# Altium integrated library Wurth_Elektronik_Electromechanic_Wire_to_Board_Connectors_rev16a.IntLib: 662 symbols (part 3 of 10)
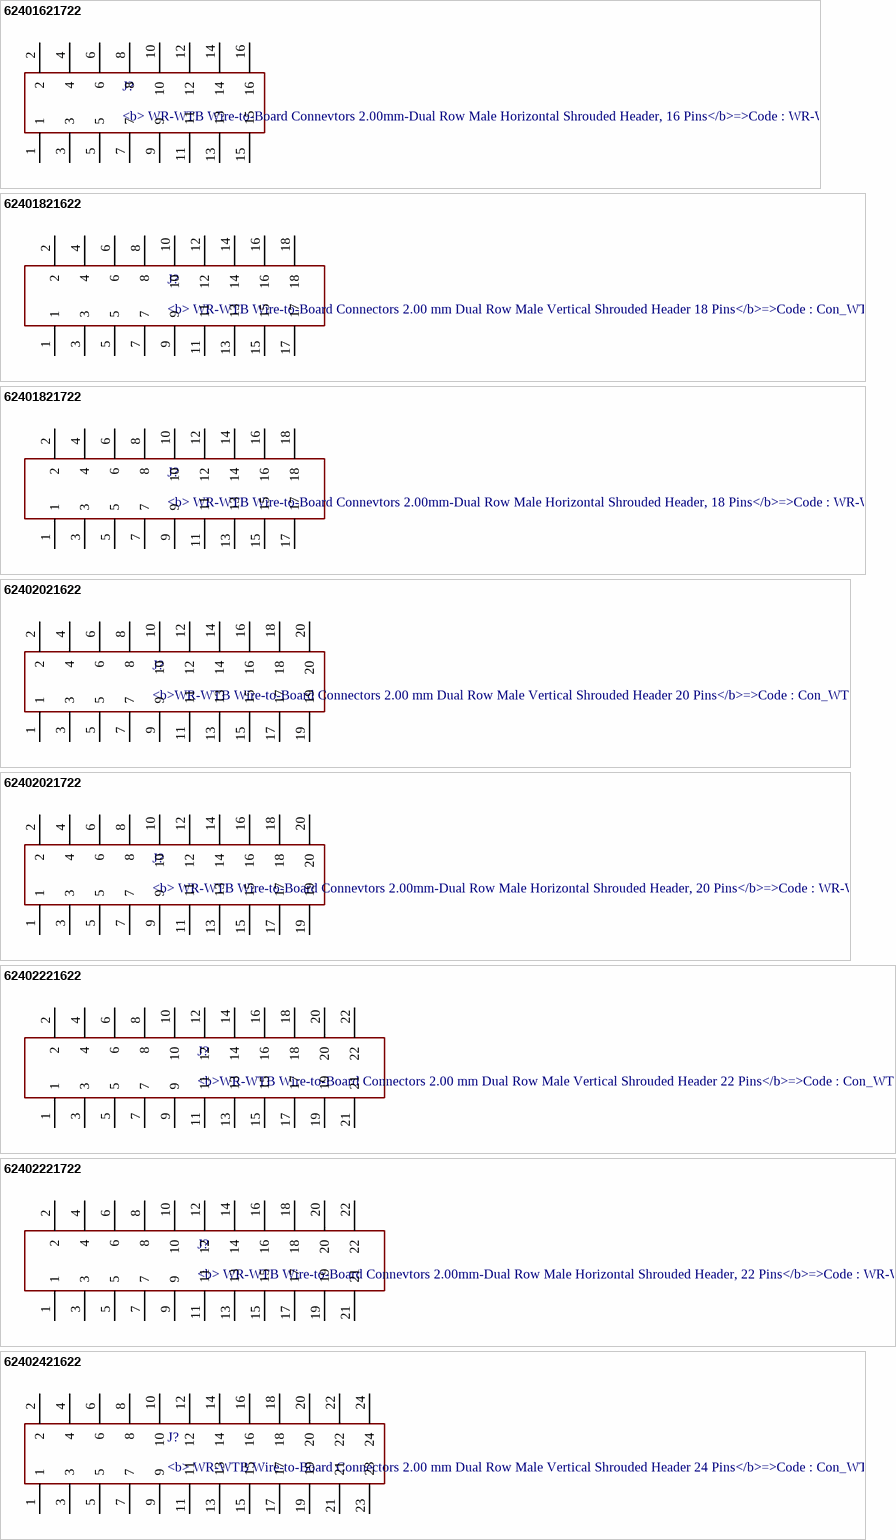
[diagram p64: symbols 62401621722 to 62402421622]

## 62401821622
designator J?, comment <b> WR-WTB Wire-to-Board Connectors 2.00 mm Dual Row Male Vertical Shrouded Header 18 Pins</b>=>Code : Con_WTB_2.00_PCB_THT_62401821622 / <br><a href="http://katalog.we-online.de/media/thumbs2/eican/thb_Con_WTB_2.00_PCB_THT_6240xx21622_pf2.jpg" title="Enlarge picture"> / <img src="http://katalog.we-online.de/media/thumbs2/eican/thb_Con_WTB_2.00_PCB_THT_6240xx21622_pf2.jpg"  width="320"></a><p> / Details see: <a href="http://katalog.we-online.de/en/em/624_0xx_216_22">http://katalog.we-online.de/en/em/624_0xx_216_22</a><p> / Created 2014-06-05, Karrer Zheng<br> / 2014 (C) Würth Elektronik
footprint 62401821622
pins: 1, 2, 3, 4, 5, 6, 7, 8, 9, 10, 11, 12, 13, 14, 15, 16, 17, 18

## 62401821722
designator J?, comment <b> WR-WTB Wire-to-Board Connevtors 2.00mm-Dual Row Male Horizontal Shrouded Header, 18 Pins</b>=>Code : WR-WTB_Stiftleiste_62401821722 / <br><a href="http://katalog.we-online.de/media/thumbs2/eican/thb_WR-WTB_Stiftleiste_6240xx21722.jpg" title="Enlarge picture"> / <img src="http://katalog.we-online.de/media/thumbs2/eican/thb_WR-WTB_Stiftleiste_6240xx21722.jpg"  width="320"></a><p> / Details see: <a href="http://katalog.we-online.de/en/em/624_0xx_217_22">http://katalog.we-online.de/en/em/624_0xx_217_22</a><p> / Created 2014-06-05, Karrer Zheng<br> / 2014 (C) Würth Elektronik
footprint 62401821722
pins: 1, 2, 3, 4, 5, 6, 7, 8, 9, 10, 11, 12, 13, 14, 15, 16, 17, 18

## 62402021622
designator J?, comment <b>WR-WTB Wire-to-Board Connectors 2.00 mm Dual Row Male Vertical Shrouded Header 20 Pins</b>=>Code : Con_WTB_2.00_PCB_THT_62402021622 / <br><a href="http://katalog.we-online.de/media/thumbs2/eican/thb_Con_WTB_2.00_PCB_THT_6240xx21622_pf2.jpg" title="Enlarge picture"> / <img src="http://katalog.we-online.de/media/thumbs2/eican/thb_Con_WTB_2.00_PCB_THT_6240xx21622_pf2.jpg"  width="320"></a><p> / Details see: <a href="http://katalog.we-online.de/en/em/624_0xx_216_22">http://katalog.we-online.de/en/em/624_0xx_216_22</a><p> / Created 2014-06-05, Karrer Zheng<br> / 2014 (C) Würth Elektronik
footprint 62402021622
pins: 1, 2, 3, 4, 5, 6, 7, 8, 9, 10, 11, 12, 13, 14, 15, 16, 17, 18, 19, 20

## 62402021722
designator J?, comment <b> WR-WTB Wire-to-Board Connevtors 2.00mm-Dual Row Male Horizontal Shrouded Header, 20 Pins</b>=>Code : WR-WTB_Stiftleiste_62402021722 / <br><a href="http://katalog.we-online.de/media/thumbs2/eican/thb_WR-WTB_Stiftleiste_6240xx21722.jpg" title="Enlarge picture"> / <img src="http://katalog.we-online.de/media/thumbs2/eican/thb_WR-WTB_Stiftleiste_6240xx21722.jpg"  width="320"></a><p> / Details see: <a href="http://katalog.we-online.de/en/em/624_0xx_217_22">http://katalog.we-online.de/en/em/624_0xx_217_22</a><p> / Created 2014-06-05, Karrer Zheng<br> / 2014 (C) Würth Elektronik
footprint 62402021722
pins: 1, 2, 3, 4, 5, 6, 7, 8, 9, 10, 11, 12, 13, 14, 15, 16, 17, 18, 19, 20

## 62402221622
designator J?, comment <b>WR-WTB Wire-to-Board Connectors 2.00 mm Dual Row Male Vertical Shrouded Header 22 Pins</b>=>Code : Con_WTB_2.00_PCB_THT_62402221622 / <br><a href="http://katalog.we-online.de/media/thumbs2/eican/thb_Con_WTB_2.00_PCB_THT_6240xx21622_pf2.jpg" title="Enlarge picture"> / <img src="http://katalog.we-online.de/media/thumbs2/eican/thb_Con_WTB_2.00_PCB_THT_6240xx21622_pf2.jpg"  width="320"></a><p> / Details see: <a href="http://katalog.we-online.de/en/em/624_0xx_216_22">http://katalog.we-online.de/en/em/624_0xx_216_22</a><p> / Created 2014-06-05, Karrer Zheng<br> / 2014 (C) Würth Elektronik
footprint 62402221622
pins: 1, 2, 3, 4, 5, 6, 7, 8, 9, 10, 11, 12, 13, 14, 15, 16, 17, 18, 19, 20, 21, 22

## 62402221722
designator J?, comment <b> WR-WTB Wire-to-Board Connevtors 2.00mm-Dual Row Male Horizontal Shrouded Header, 22 Pins</b>=>Code : WR-WTB_Stiftleiste_62402221722 / <br><a href="http://katalog.we-online.de/media/thumbs2/eican/thb_WR-WTB_Stiftleiste_6240xx21722.jpg" title="Enlarge picture"> / <img src="http://katalog.we-online.de/media/thumbs2/eican/thb_WR-WTB_Stiftleiste_6240xx21722.jpg"  width="320"></a><p> / Details see: <a href="http://katalog.we-online.de/en/em/624_0xx_217_22">http://katalog.we-online.de/en/em/624_0xx_217_22</a><p> / Created 2014-06-05, Karrer Zheng<br> / 2014 (C) Würth Elektronik
footprint 62402221722
pins: 1, 2, 3, 4, 5, 6, 7, 8, 9, 10, 11, 12, 13, 14, 15, 16, 17, 18, 19, 20, 21, 22

## 62402421622
designator J?, comment <b> WR-WTB Wire-to-Board Connectors 2.00 mm Dual Row Male Vertical Shrouded Header 24 Pins</b>=>Code : Con_WTB_2.00_PCB_THT_62402421622 / <br><a href="http://katalog.we-online.de/media/thumbs2/eican/thb_Con_WTB_2.00_PCB_THT_6240xx21622_pf2.jpg" title="Enlarge picture"> / <img src="http://katalog.we-online.de/media/thumbs2/eican/thb_Con_WTB_2.00_PCB_THT_6240xx21622_pf2.jpg"  width="320"></a><p> / Details see: <a href="http://katalog.we-online.de/en/em/624_0xx_216_22">http://katalog.we-online.de/en/em/624_0xx_216_22</a><p> / Created 2014-06-05, Karrer Zheng<br> / 2014 (C) Würth Elektronik
footprint 62402421622
pins: 1, 2, 3, 4, 5, 6, 7, 8, 9, 10, 11, 12, 13, 14, 15, 16, 17, 18, 19, 20, 21, 22, 23, 24

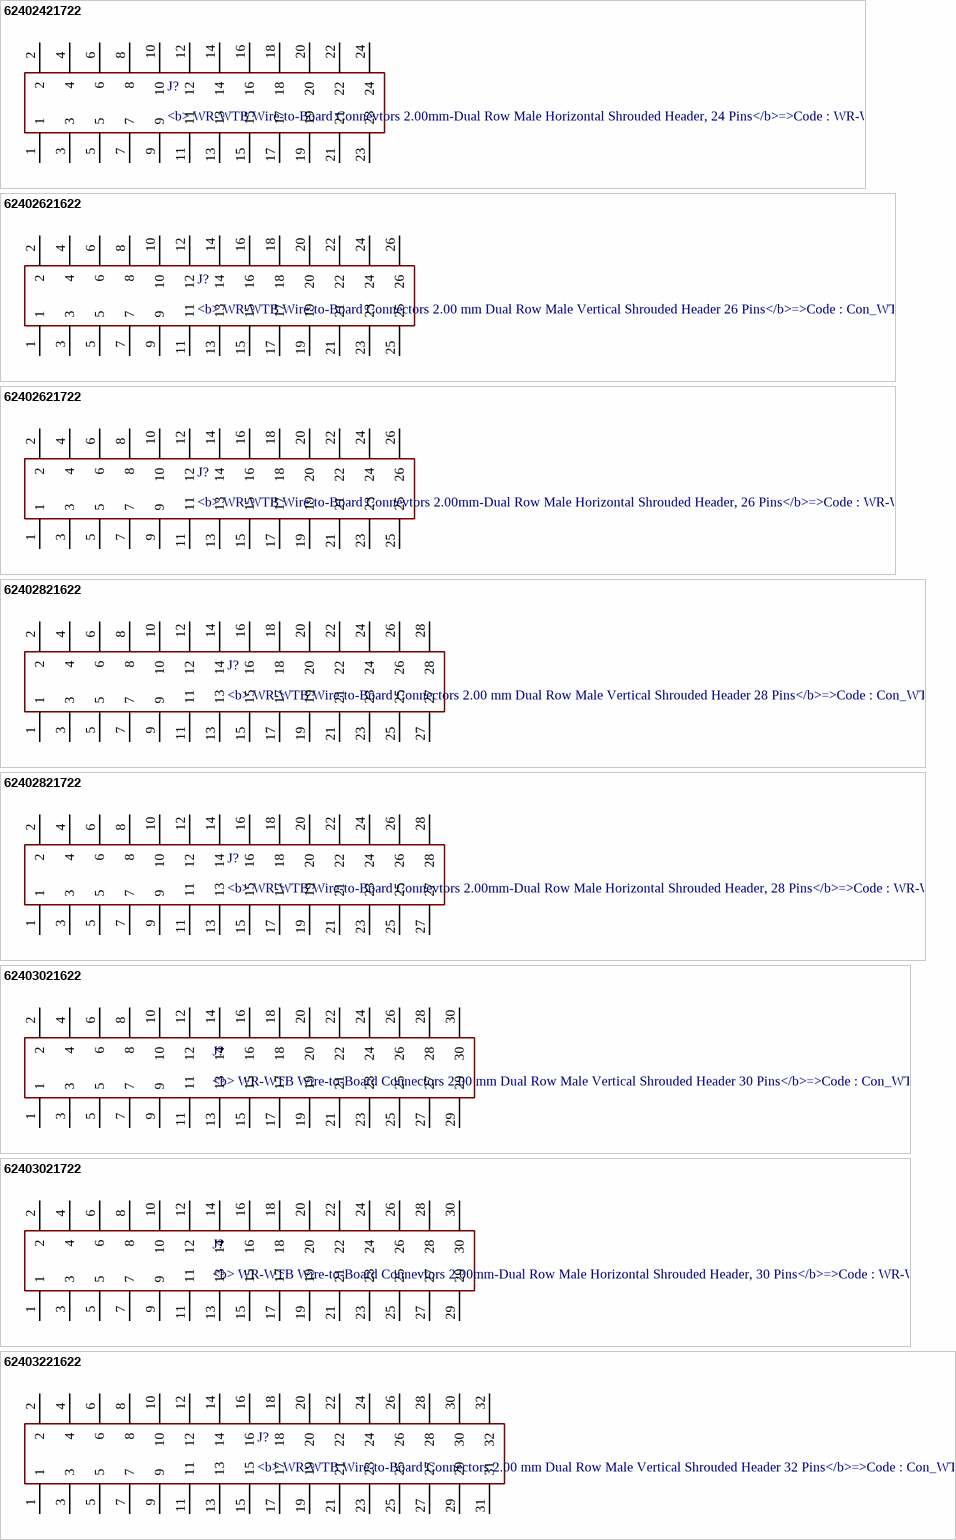
[diagram p14: symbols 62402421722 to 62403221622]

## 62402421722
designator J?, comment <b> WR-WTB Wire-to-Board Connevtors 2.00mm-Dual Row Male Horizontal Shrouded Header, 24 Pins</b>=>Code : WR-WTB_Stiftleiste_62402421722 / <br><a href="http://katalog.we-online.de/media/thumbs2/eican/thb_WR-WTB_Stiftleiste_6240xx21722.jpg" title="Enlarge picture"> / <img src="http://katalog.we-online.de/media/thumbs2/eican/thb_WR-WTB_Stiftleiste_6240xx21722.jpg"  width="320"></a><p> / Details see: <a href="http://katalog.we-online.de/en/em/624_0xx_217_22">http://katalog.we-online.de/en/em/624_0xx_217_22</a><p> / Created 2014-06-05, Karrer Zheng<br> / 2014 (C) Würth Elektronik
footprint 62402421722
pins: 1, 2, 3, 4, 5, 6, 7, 8, 9, 10, 11, 12, 13, 14, 15, 16, 17, 18, 19, 20, 21, 22, 23, 24

## 62402621622
designator J?, comment <b> WR-WTB Wire-to-Board Connectors 2.00 mm Dual Row Male Vertical Shrouded Header 26 Pins</b>=>Code : Con_WTB_2.00_PCB_THT_62402621622 / <br><a href="http://katalog.we-online.de/media/thumbs2/eican/thb_Con_WTB_2.00_PCB_THT_6240xx21622_pf2.jpg" title="Enlarge picture"> / <img src="http://katalog.we-online.de/media/thumbs2/eican/thb_Con_WTB_2.00_PCB_THT_6240xx21622_pf2.jpg"  width="320"></a><p> / Details see: <a href="http://katalog.we-online.de/en/em/624_0xx_216_22">http://katalog.we-online.de/en/em/624_0xx_216_22</a><p> / Created 2014-06-05, Karrer Zheng<br> / 2014 (C) Würth Elektronik
footprint 62402621622
pins: 1, 2, 3, 4, 5, 6, 7, 8, 9, 10, 11, 12, 13, 14, 15, 16, 17, 18, 19, 20, 21, 22, 23, 24, 25, 26

## 62402621722
designator J?, comment <b> WR-WTB Wire-to-Board Connevtors 2.00mm-Dual Row Male Horizontal Shrouded Header, 26 Pins</b>=>Code : WR-WTB_Stiftleiste_62402621722 / <br><a href="http://katalog.we-online.de/media/thumbs2/eican/thb_WR-WTB_Stiftleiste_6240xx21722.jpg" title="Enlarge picture"> / <img src="http://katalog.we-online.de/media/thumbs2/eican/thb_WR-WTB_Stiftleiste_6240xx21722.jpg"  width="320"></a><p> / Details see: <a href="http://katalog.we-online.de/en/em/624_0xx_217_22">http://katalog.we-online.de/en/em/624_0xx_217_22</a><p> / Created 2014-06-05, Karrer Zheng<br> / 2014 (C) Würth Elektronik
footprint 62402621722
pins: 1, 2, 3, 4, 5, 6, 7, 8, 9, 10, 11, 12, 13, 14, 15, 16, 17, 18, 19, 20, 21, 22, 23, 24, 25, 26

## 62402821622
designator J?, comment <b> WR-WTB Wire-to-Board Connectors 2.00 mm Dual Row Male Vertical Shrouded Header 28 Pins</b>=>Code : Con_WTB_2.00_PCB_THT_62402821622 / <br><a href="http://katalog.we-online.de/media/thumbs2/eican/thb_Con_WTB_2.00_PCB_THT_6240xx21622_pf2.jpg" title="Enlarge picture"> / <img src="http://katalog.we-online.de/media/thumbs2/eican/thb_Con_WTB_2.00_PCB_THT_6240xx21622_pf2.jpg"  width="320"></a><p> / Details see: <a href="http://katalog.we-online.de/en/em/624_0xx_216_22">http://katalog.we-online.de/en/em/624_0xx_216_22</a><p> / Created 2014-06-05, Karrer Zheng<br> / 2014 (C) Würth Elektronik
footprint 62402821622
pins: 1, 2, 3, 4, 5, 6, 7, 8, 9, 10, 11, 12, 13, 14, 15, 16, 17, 18, 19, 20, 21, 22, 23, 24, 25, 26, 27, 28

## 62402821722
designator J?, comment <b> WR-WTB Wire-to-Board Connevtors 2.00mm-Dual Row Male Horizontal Shrouded Header, 28 Pins</b>=>Code : WR-WTB_Stiftleiste_62402821722 / <br><a href="http://katalog.we-online.de/media/thumbs2/eican/thb_WR-WTB_Stiftleiste_6240xx21722.jpg" title="Enlarge picture"> / <img src="http://katalog.we-online.de/media/thumbs2/eican/thb_WR-WTB_Stiftleiste_6240xx21722.jpg"  width="320"></a><p> / Details see: <a href="http://katalog.we-online.de/en/em/624_0xx_217_22">http://katalog.we-online.de/en/em/624_0xx_217_22</a><p> / Created 2014-06-05, Karrer Zheng<br> / 2014 (C) Würth Elektronik
footprint 62402821722
pins: 1, 2, 3, 4, 5, 6, 7, 8, 9, 10, 11, 12, 13, 14, 15, 16, 17, 18, 19, 20, 21, 22, 23, 24, 25, 26, 27, 28

## 62403021622
designator J?, comment <b> WR-WTB Wire-to-Board Connectors 2.00 mm Dual Row Male Vertical Shrouded Header 30 Pins</b>=>Code : Con_WTB_2.00_PCB_THT_62403021622 / <br><a href="http://katalog.we-online.de/media/thumbs2/eican/thb_Con_WTB_2.00_PCB_THT_6240xx21622_pf2.jpg" title="Enlarge picture"> / <img src="http://katalog.we-online.de/media/thumbs2/eican/thb_Con_WTB_2.00_PCB_THT_6240xx21622_pf2.jpg"  width="320"></a><p> / Details see: <a href="http://katalog.we-online.de/en/em/624_0xx_216_22">http://katalog.we-online.de/en/em/624_0xx_216_22</a><p> / Created 2014-06-05, Karrer Zheng<br> / 2014 (C) Würth Elektronik
footprint 62403021622
pins: 1, 2, 3, 4, 5, 6, 7, 8, 9, 10, 11, 12, 13, 14, 15, 16, 17, 18, 19, 20, 21, 22, 23, 24, 25, 26, 27, 28, 29, 30

## 62403021722
designator J?, comment <b> WR-WTB Wire-to-Board Connevtors 2.00mm-Dual Row Male Horizontal Shrouded Header, 30 Pins</b>=>Code : WR-WTB_Stiftleiste_62403021722 / <br><a href="http://katalog.we-online.de/media/thumbs2/eican/thb_WR-WTB_Stiftleiste_6240xx21722.jpg" title="Enlarge picture"> / <img src="http://katalog.we-online.de/media/thumbs2/eican/thb_WR-WTB_Stiftleiste_6240xx21722.jpg"  width="320"></a><p> / Details see: <a href="http://katalog.we-online.de/en/em/624_0xx_217_22">http://katalog.we-online.de/en/em/624_0xx_217_22</a><p> / Created 2014-06-05, Karrer Zheng<br> / 2014 (C) Würth Elektronik
footprint 62403021722
pins: 1, 2, 3, 4, 5, 6, 7, 8, 9, 10, 11, 12, 13, 14, 15, 16, 17, 18, 19, 20, 21, 22, 23, 24, 25, 26, 27, 28, 29, 30

## 62403221622
designator J?, comment <b> WR-WTB Wire-to-Board Connectors 2.00 mm Dual Row Male Vertical Shrouded Header 32 Pins</b>=>Code : Con_WTB_2.00_PCB_THT_62403221622 / <br><a href="http://katalog.we-online.de/media/thumbs2/eican/thb_Con_WTB_2.00_PCB_THT_6240xx21622_pf2.jpg" title="Enlarge picture"> / <img src="http://katalog.we-online.de/media/thumbs2/eican/thb_Con_WTB_2.00_PCB_THT_6240xx21622_pf2.jpg"  width="320"></a><p> / Details see: <a href="http://katalog.we-online.de/en/em/624_0xx_216_22">http://katalog.we-online.de/en/em/624_0xx_216_22</a><p> / Created 2014-06-05, Karrer Zheng<br> / 2014 (C) Würth Elektronik
footprint 62403221622
pins: 1, 2, 3, 4, 5, 6, 7, 8, 9, 10, 11, 12, 13, 14, 15, 16, 17, 18, 19, 20, 21, 22, 23, 24, 25, 26, 27, 28, 29, 30, 31, 32

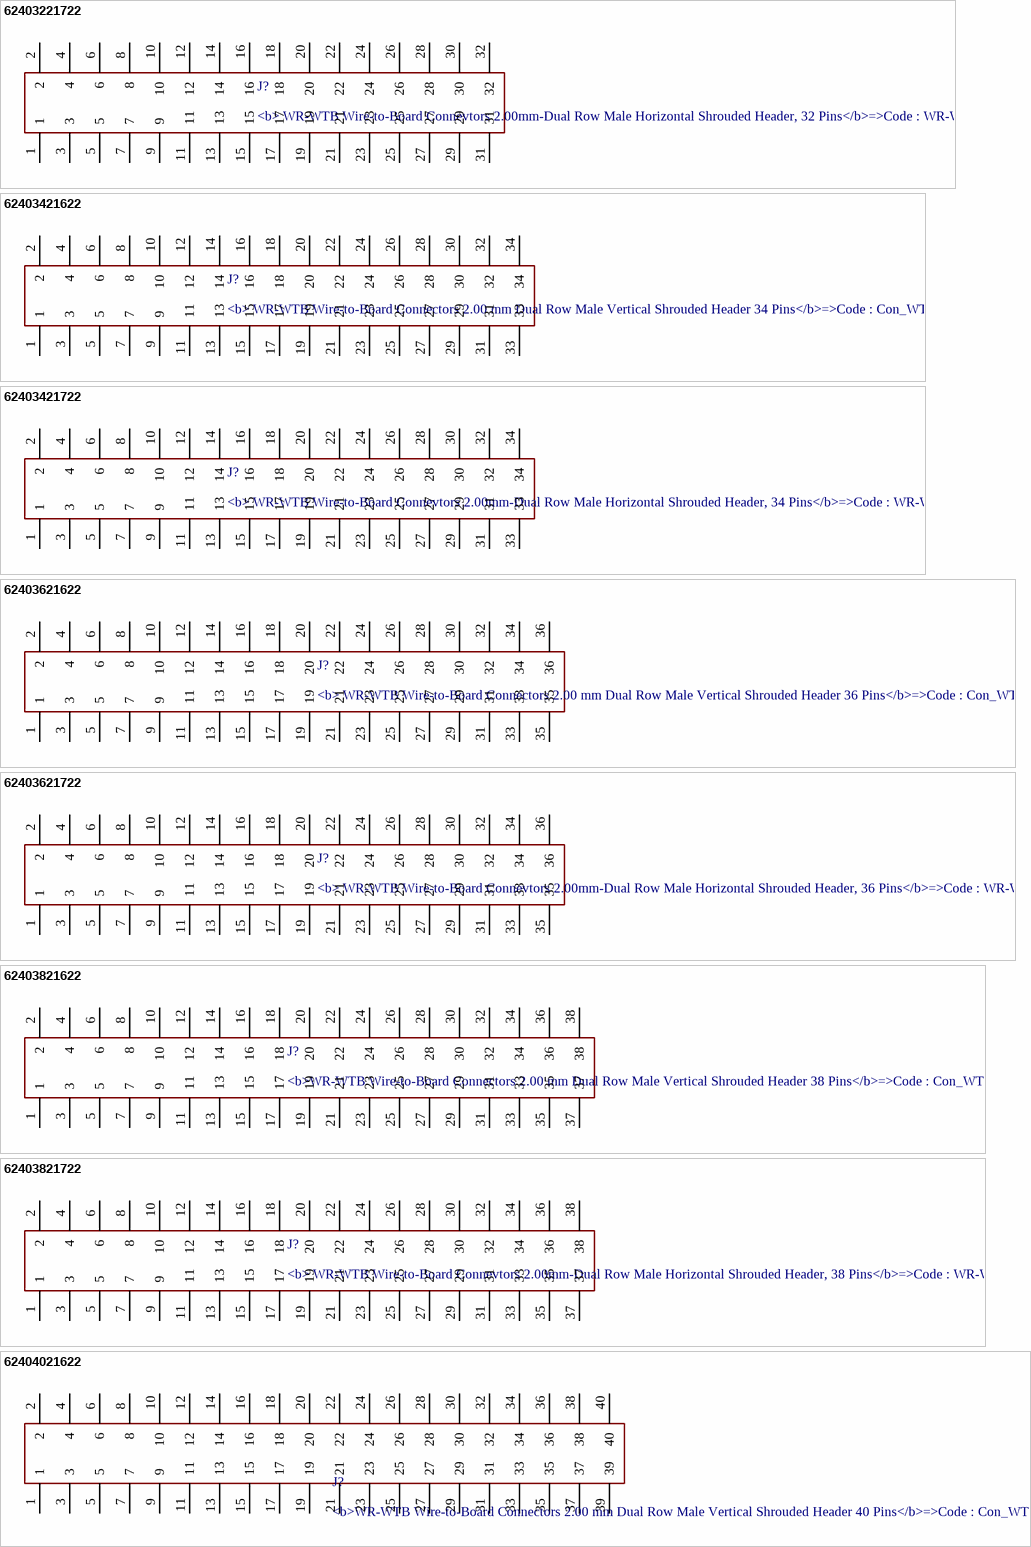
[diagram p15: symbols 62403221722 to 62404021622]

## 62403221722
designator J?, comment <b> WR-WTB Wire-to-Board Connevtors 2.00mm-Dual Row Male Horizontal Shrouded Header, 32 Pins</b>=>Code : WR-WTB_Stiftleiste_62403221722 / <br><a href="http://katalog.we-online.de/media/thumbs2/eican/thb_WR-WTB_Stiftleiste_6240xx21722.jpg" title="Enlarge picture"> / <img src="http://katalog.we-online.de/media/thumbs2/eican/thb_WR-WTB_Stiftleiste_6240xx21722.jpg"  width="320"></a><p> / Details see: <a href="http://katalog.we-online.de/en/em/624_0xx_217_22">http://katalog.we-online.de/en/em/624_0xx_217_22</a><p> / Created 2014-06-05, Karrer Zheng<br> / 2014 (C) Würth Elektronik
footprint 62403221722
pins: 1, 2, 3, 4, 5, 6, 7, 8, 9, 10, 11, 12, 13, 14, 15, 16, 17, 18, 19, 20, 21, 22, 23, 24, 25, 26, 27, 28, 29, 30, 31, 32

## 62403421622
designator J?, comment <b> WR-WTB Wire-to-Board Connectors 2.00 mm Dual Row Male Vertical Shrouded Header 34 Pins</b>=>Code : Con_WTB_2.00_PCB_THT_62403421622 / <br><a href="http://katalog.we-online.de/media/thumbs2/eican/thb_Con_WTB_2.00_PCB_THT_6240xx21622_pf2.jpg" title="Enlarge picture"> / <img src="http://katalog.we-online.de/media/thumbs2/eican/thb_Con_WTB_2.00_PCB_THT_6240xx21622_pf2.jpg"  width="320"></a><p> / Details see: <a href="http://katalog.we-online.de/en/em/624_0xx_216_22">http://katalog.we-online.de/en/em/624_0xx_216_22</a><p> / Created 2014-06-05, Karrer Zheng<br> / 2014 (C) Würth Elektronik
footprint 62403421622
pins: 1, 2, 3, 4, 5, 6, 7, 8, 9, 10, 11, 12, 13, 14, 15, 16, 17, 18, 19, 20, 21, 22, 23, 24, 25, 26, 27, 28, 29, 30, 31, 32, 33, 34

## 62403421722
designator J?, comment <b> WR-WTB Wire-to-Board Connevtors 2.00mm-Dual Row Male Horizontal Shrouded Header, 34 Pins</b>=>Code : WR-WTB_Stiftleiste_62403421722 / <br><a href="http://katalog.we-online.de/media/thumbs2/eican/thb_WR-WTB_Stiftleiste_6240xx21722.jpg" title="Enlarge picture"> / <img src="http://katalog.we-online.de/media/thumbs2/eican/thb_WR-WTB_Stiftleiste_6240xx21722.jpg"  width="320"></a><p> / Details see: <a href="http://katalog.we-online.de/en/em/624_0xx_217_22">http://katalog.we-online.de/en/em/624_0xx_217_22</a><p> / Created 2014-06-05, Karrer Zheng<br> / 2014 (C) Würth Elektronik
footprint 62403421722
pins: 1, 2, 3, 4, 5, 6, 7, 8, 9, 10, 11, 12, 13, 14, 15, 16, 17, 18, 19, 20, 21, 22, 23, 24, 25, 26, 27, 28, 29, 30, 31, 32, 33, 34

## 62403621622
designator J?, comment <b> WR-WTB Wire-to-Board Connectors 2.00 mm Dual Row Male Vertical Shrouded Header 36 Pins</b>=>Code : Con_WTB_2.00_PCB_THT_62403621622 / <br><a href="http://katalog.we-online.de/media/thumbs2/eican/thb_Con_WTB_2.00_PCB_THT_6240xx21622_pf2.jpg" title="Enlarge picture"> / <img src="http://katalog.we-online.de/media/thumbs2/eican/thb_Con_WTB_2.00_PCB_THT_6240xx21622_pf2.jpg"  width="320"></a><p> / Details see: <a href="http://katalog.we-online.de/en/em/624_0xx_216_22">http://katalog.we-online.de/en/em/624_0xx_216_22</a><p> / Created 2014-06-05, Karrer Zheng<br> / 2014 (C) Würth Elektronik
footprint 62403621622
pins: 1, 2, 3, 4, 5, 6, 7, 8, 9, 10, 11, 12, 13, 14, 15, 16, 17, 18, 19, 20, 21, 22, 23, 24, 25, 26, 27, 28, 29, 30, 31, 32, 33, 34, 35, 36

## 62403621722
designator J?, comment <b> WR-WTB Wire-to-Board Connevtors 2.00mm-Dual Row Male Horizontal Shrouded Header, 36 Pins</b>=>Code : WR-WTB_Stiftleiste_62403621722 / <br><a href="http://katalog.we-online.de/media/thumbs2/eican/thb_WR-WTB_Stiftleiste_6240xx21722.jpg" title="Enlarge picture"> / <img src="http://katalog.we-online.de/media/thumbs2/eican/thb_WR-WTB_Stiftleiste_6240xx21722.jpg"  width="320"></a><p> / Details see: <a href="http://katalog.we-online.de/en/em/624_0xx_217_22">http://katalog.we-online.de/en/em/624_0xx_217_22</a><p> / Created 2014-06-05, Karrer Zheng<br> / 2014 (C) Würth Elektronik
footprint 62403621722
pins: 1, 2, 3, 4, 5, 6, 7, 8, 9, 10, 11, 12, 13, 14, 15, 16, 17, 18, 19, 20, 21, 22, 23, 24, 25, 26, 27, 28, 29, 30, 31, 32, 33, 34, 35, 36

## 62403821622
designator J?, comment <b>WR-WTB Wire-to-Board Connectors 2.00 mm Dual Row Male Vertical Shrouded Header 38 Pins</b>=>Code : Con_WTB_2.00_PCB_THT_62403821622 / <br><a href="http://katalog.we-online.de/media/thumbs2/eican/thb_Con_WTB_2.00_PCB_THT_6240xx21622_pf2.jpg" title="Enlarge picture"> / <img src="http://katalog.we-online.de/media/thumbs2/eican/thb_Con_WTB_2.00_PCB_THT_6240xx21622_pf2.jpg"  width="320"></a><p> / Details see: <a href="http://katalog.we-online.de/en/em/624_0xx_216_22">http://katalog.we-online.de/en/em/624_0xx_216_22</a><p> / Created 2014-06-05, Karrer Zheng<br> / 2014 (C) Würth Elektronik
footprint 62403821622
pins: 1, 2, 3, 4, 5, 6, 7, 8, 9, 10, 11, 12, 13, 14, 15, 16, 17, 18, 19, 20, 21, 22, 23, 24, 25, 26, 27, 28, 29, 30, 31, 32, 33, 34, 35, 36, 37, 38

## 62403821722
designator J?, comment <b> WR-WTB Wire-to-Board Connevtors 2.00mm-Dual Row Male Horizontal Shrouded Header, 38 Pins</b>=>Code : WR-WTB_Stiftleiste_62403821722 / <br><a href="http://katalog.we-online.de/media/thumbs2/eican/thb_WR-WTB_Stiftleiste_6240xx21722.jpg" title="Enlarge picture"> / <img src="http://katalog.we-online.de/media/thumbs2/eican/thb_WR-WTB_Stiftleiste_6240xx21722.jpg"  width="320"></a><p> / Details see: <a href="http://katalog.we-online.de/en/em/624_0xx_217_22">http://katalog.we-online.de/en/em/624_0xx_217_22</a><p> / Created 2014-06-05, Karrer Zheng<br> / 2014 (C) Würth Elektronik
footprint 62403821722
pins: 1, 2, 3, 4, 5, 6, 7, 8, 9, 10, 11, 12, 13, 14, 15, 16, 17, 18, 19, 20, 21, 22, 23, 24, 25, 26, 27, 28, 29, 30, 31, 32, 33, 34, 35, 36, 37, 38

## 62404021622
designator J?, comment <b>WR-WTB Wire-to-Board Connectors 2.00 mm Dual Row Male Vertical Shrouded Header 40 Pins</b>=>Code : Con_WTB_2.00_PCB_THT_62404021622 / <br><a href="http://katalog.we-online.de/media/thumbs2/eican/thb_Con_WTB_2.00_PCB_THT_6240xx21622_pf2.jpg" title="Enlarge picture"> / <img src="http://katalog.we-online.de/media/thumbs2/eican/thb_Con_WTB_2.00_PCB_THT_6240xx21622_pf2.jpg"  width="320"></a><p> / Details see: <a href="http://katalog.we-online.de/en/em/624_0xx_216_22">http://katalog.we-online.de/en/em/624_0xx_216_22</a><p> / Created 2014-06-05, Karrer Zheng<br> / 2014 (C) Würth Elektronik
footprint 62404021622
pins: 1, 2, 3, 4, 5, 6, 7, 8, 9, 10, 11, 12, 13, 14, 15, 16, 17, 18, 19, 20, 21, 22, 23, 24, 25, 26, 27, 28, 29, 30, 31, 32, 33, 34, 35, 36, 37, 38, 39, 40

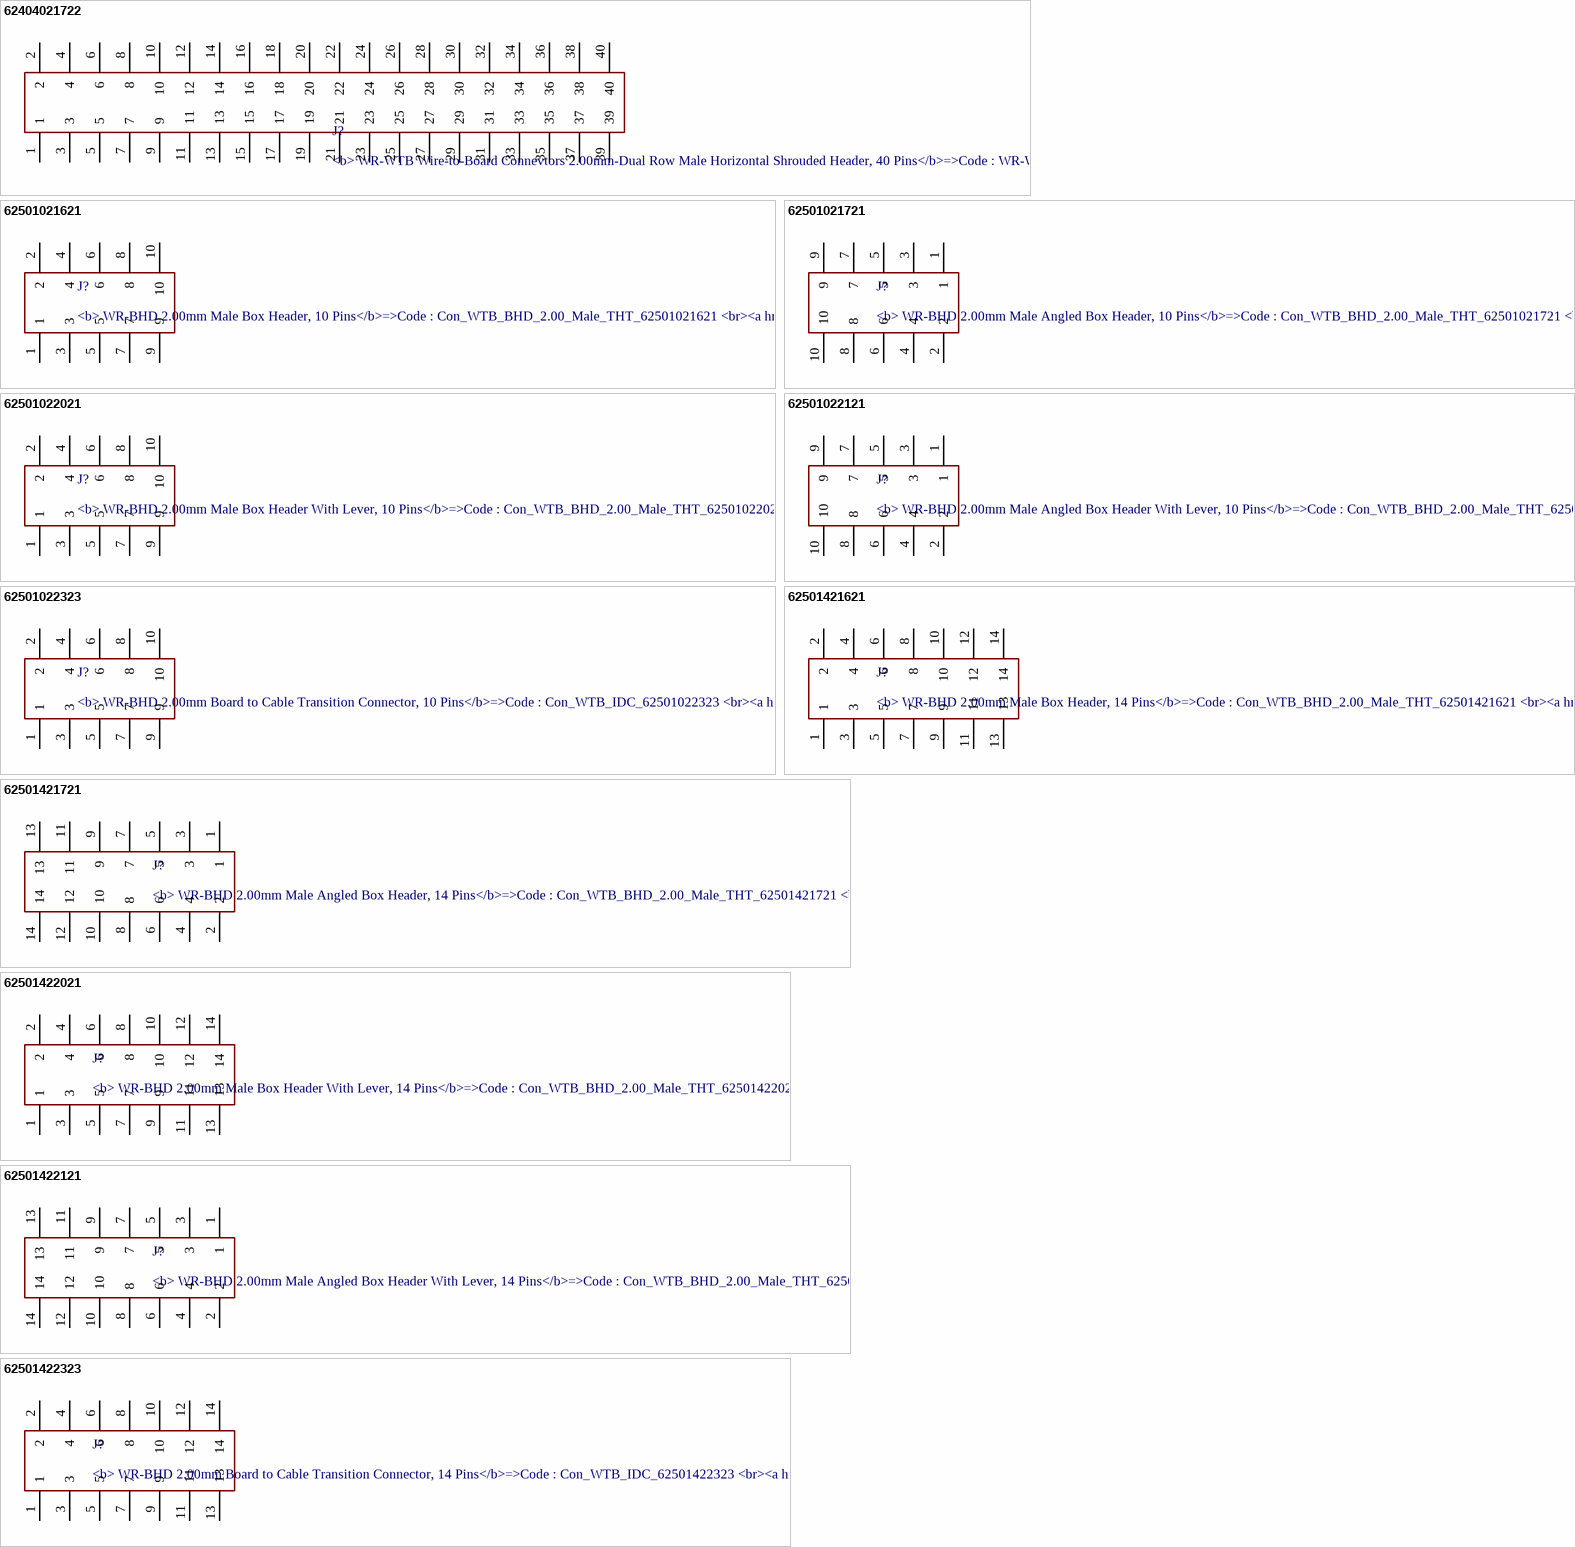
[diagram p16: symbols 62404021722 to 62501422323]

## 62404021722
designator J?, comment <b> WR-WTB Wire-to-Board Connevtors 2.00mm-Dual Row Male Horizontal Shrouded Header, 40 Pins</b>=>Code : WR-WTB_Stiftleiste_62404021722 / <br><a href="http://katalog.we-online.de/media/thumbs2/eican/thb_WR-WTB_Stiftleiste_6240xx21722.jpg" title="Enlarge picture"> / <img src="http://katalog.we-online.de/media/thumbs2/eican/thb_WR-WTB_Stiftleiste_6240xx21722.jpg"  width="320"></a><p> / Details see: <a href="http://katalog.we-online.de/en/em/624_0xx_217_22">http://katalog.we-online.de/en/em/624_0xx_217_22</a><p> / Created 2014-06-05, Karrer Zheng<br> / 2014 (C) Würth Elektronik
footprint 62404021722
pins: 1, 2, 3, 4, 5, 6, 7, 8, 9, 10, 11, 12, 13, 14, 15, 16, 17, 18, 19, 20, 21, 22, 23, 24, 25, 26, 27, 28, 29, 30, 31, 32, 33, 34, 35, 36, 37, 38, 39, 40

## 62501021621
designator J?, comment <b> WR-BHD 2.00mm Male Box Header, 10 Pins</b>=>Code : Con_WTB_BHD_2.00_Male_THT_62501021621 / <br><a href="http://katalog.we-online.de/media/thumbs2/eican/thb_Con_WTB_BHD_2.00_Male_THT_6250xx21621_pf2.jpg" title="Enlarge picture"> / <img src="http://katalog.we-online.de/media/thumbs2/eican/thb_Con_WTB_BHD_2.00_Male_THT_6250xx21621_pf2.jpg"  width="320"></a><p> / Details see: <a href="http://katalog.we-online.de/en/em/625_0xx_216_21">http://katalog.we-online.de/en/em/625_0xx_216_21</a><p> / Created 2014-06-05, Karrer Zheng<br> / 2014 (C) Würth Elektronik
footprint 62501021621
pins: 1, 2, 3, 4, 5, 6, 7, 8, 9, 10

## 62501021721
designator J?, comment <b> WR-BHD 2.00mm Male Angled Box Header, 10 Pins</b>=>Code : Con_WTB_BHD_2.00_Male_THT_62501021721 / <br><a href="http://katalog.we-online.de/media/thumbs2/eican/thb_Con_WTB_BHD_2.00_Male_THT_6250xx21721_pf2.jpg" title="Enlarge picture"> / <img src="http://katalog.we-online.de/media/thumbs2/eican/thb_Con_WTB_BHD_2.00_Male_THT_6250xx21721_pf2.jpg"  width="320"></a><p> / Details see: <a href="http://katalog.we-online.de/en/em/625_0xx_217_21">http://katalog.we-online.de/en/em/625_0xx_217_21</a><p> / Created 2014-06-05, Karrer Zheng<br> / 2014 (C) Würth Elektronik
footprint 62501021721
pins: 1, 2, 3, 4, 5, 6, 7, 8, 9, 10

## 62501022021
designator J?, comment <b> WR-BHD 2.00mm Male Box Header With Lever, 10 Pins</b>=>Code : Con_WTB_BHD_2.00_Male_THT_62501022021 / <br><a href="http://katalog.we-online.de/media/thumbs2/eican/thb_Con_WTB_BHD_2.00_Male_THT_6250xx22021_pf2.jpg" title="Enlarge picture"> / <img src="http://katalog.we-online.de/media/thumbs2/eican/thb_Con_WTB_BHD_2.00_Male_THT_6250xx22021_pf2.jpg"  width="320"></a><p> / Details see: <a href="http://katalog.we-online.de/en/em/625_0xx_220_21">http://katalog.we-online.de/en/em/625_0xx_220_21</a><p> / Created 2014-06-05, Karrer Zheng<br> / 2014 (C) Würth Elektronik
footprint 62501022021
pins: 1, 2, 3, 4, 5, 6, 7, 8, 9, 10

## 62501022121
designator J?, comment <b> WR-BHD 2.00mm Male Angled Box Header With Lever, 10 Pins</b>=>Code : Con_WTB_BHD_2.00_Male_THT_62501022121 / <br><a href="http://katalog.we-online.de/media/thumbs2/eican/thb_Con_WTB_BHD_2.00_Male_THT_6250xx22121_pf2.jpg" title="Enlarge picture"> / <img src="http://katalog.we-online.de/media/thumbs2/eican/thb_Con_WTB_BHD_2.00_Male_THT_6250xx22121_pf2.jpg"  width="320"></a><p> / Details see: <a href="http://katalog.we-online.de/en/em/625_0xx_221_21">http://katalog.we-online.de/en/em/625_0xx_221_21</a><p> / Created 2014-06-05, Karrer Zheng<br> / 2014 (C) Würth Elektronik
footprint 62501022121
pins: 1, 2, 3, 4, 5, 6, 7, 8, 9, 10

## 62501022323
designator J?, comment <b> WR-BHD 2.00mm Board to Cable Transition Connector, 10 Pins</b>=>Code : Con_WTB_IDC_62501022323 / <br><a href="http://katalog.we-online.de/media/thumbs2/eican/thb_Con_WTB_IDC_6250xx22323_pf2.jpg" title="Enlarge picture"> / <img src="http://katalog.we-online.de/media/thumbs2/eican/thb_Con_WTB_IDC_6250xx22323_pf2.jpg"  width="320"></a><p> / Details see: <a href="http://katalog.we-online.de/en/em/625_0xx_223_23">http://katalog.we-online.de/en/em/625_0xx_223_23</a><p> / Created 2014-06-05, Karrer Zheng<br> / 2014 (C) Würth Elektronik
footprint 62501022323
pins: 1, 2, 3, 4, 5, 6, 7, 8, 9, 10

## 62501421621
designator J?, comment <b> WR-BHD 2.00mm Male Box Header, 14 Pins</b>=>Code : Con_WTB_BHD_2.00_Male_THT_62501421621 / <br><a href="http://katalog.we-online.de/media/thumbs2/eican/thb_Con_WTB_BHD_2.00_Male_THT_6250xx21621_pf2.jpg" title="Enlarge picture"> / <img src="http://katalog.we-online.de/media/thumbs2/eican/thb_Con_WTB_BHD_2.00_Male_THT_6250xx21621_pf2.jpg"  width="320"></a><p> / Details see: <a href="http://katalog.we-online.de/en/em/625_0xx_216_21">http://katalog.we-online.de/en/em/625_0xx_216_21</a><p> / Created 2014-06-05, Karrer Zheng<br> / 2014 (C) Würth Elektronik
footprint 62501421621
pins: 1, 2, 3, 4, 5, 6, 7, 8, 9, 10, 11, 12, 13, 14

## 62501421721
designator J?, comment <b> WR-BHD 2.00mm Male Angled Box Header, 14 Pins</b>=>Code : Con_WTB_BHD_2.00_Male_THT_62501421721 / <br><a href="http://katalog.we-online.de/media/thumbs2/eican/thb_Con_WTB_BHD_2.00_Male_THT_6250xx21721_pf2.jpg" title="Enlarge picture"> / <img src="http://katalog.we-online.de/media/thumbs2/eican/thb_Con_WTB_BHD_2.00_Male_THT_6250xx21721_pf2.jpg"  width="320"></a><p> / Details see: <a href="http://katalog.we-online.de/en/em/625_0xx_217_21">http://katalog.we-online.de/en/em/625_0xx_217_21</a><p> / Created 2014-06-05, Karrer Zheng<br> / 2014 (C) Würth Elektronik
footprint 62501421721
pins: 1, 2, 3, 4, 5, 6, 7, 8, 9, 10, 11, 12, 13, 14

## 62501422021
designator J?, comment <b> WR-BHD 2.00mm Male Box Header With Lever, 14 Pins</b>=>Code : Con_WTB_BHD_2.00_Male_THT_62501422021 / <br><a href="http://katalog.we-online.de/media/thumbs2/eican/thb_Con_WTB_BHD_2.00_Male_THT_6250xx22021_pf2.jpg" title="Enlarge picture"> / <img src="http://katalog.we-online.de/media/thumbs2/eican/thb_Con_WTB_BHD_2.00_Male_THT_6250xx22021_pf2.jpg"  width="320"></a><p> / Details see: <a href="http://katalog.we-online.de/en/em/625_0xx_220_21">http://katalog.we-online.de/en/em/625_0xx_220_21</a><p> / Created 2014-06-05, Karrer Zheng<br> / 2014 (C) Würth Elektronik
footprint 62501422021
pins: 1, 2, 3, 4, 5, 6, 7, 8, 9, 10, 11, 12, 13, 14

## 62501422121
designator J?, comment <b> WR-BHD 2.00mm Male Angled Box Header With Lever, 14 Pins</b>=>Code : Con_WTB_BHD_2.00_Male_THT_62501422121 / <br><a href="http://katalog.we-online.de/media/thumbs2/eican/thb_Con_WTB_BHD_2.00_Male_THT_6250xx22121_pf2.jpg" title="Enlarge picture"> / <img src="http://katalog.we-online.de/media/thumbs2/eican/thb_Con_WTB_BHD_2.00_Male_THT_6250xx22121_pf2.jpg"  width="320"></a><p> / Details see: <a href="http://katalog.we-online.de/en/em/625_0xx_221_21">http://katalog.we-online.de/en/em/625_0xx_221_21</a><p> / Created 2014-06-05, Karrer Zheng<br> / 2014 (C) Würth Elektronik
footprint 62501422121
pins: 1, 2, 3, 4, 5, 6, 7, 8, 9, 10, 11, 12, 13, 14

## 62501422323
designator J?, comment <b> WR-BHD 2.00mm Board to Cable Transition Connector, 14 Pins</b>=>Code : Con_WTB_IDC_62501422323 / <br><a href="http://katalog.we-online.de/media/thumbs2/eican/thb_Con_WTB_IDC_6250xx22323_pf2.jpg" title="Enlarge picture"> / <img src="http://katalog.we-online.de/media/thumbs2/eican/thb_Con_WTB_IDC_6250xx22323_pf2.jpg"  width="320"></a><p> / Details see: <a href="http://katalog.we-online.de/en/em/625_0xx_223_23">http://katalog.we-online.de/en/em/625_0xx_223_23</a><p> / Created 2014-06-05, Karrer Zheng<br> / 2014 (C) Würth Elektronik
footprint 62501422323
pins: 1, 2, 3, 4, 5, 6, 7, 8, 9, 10, 11, 12, 13, 14

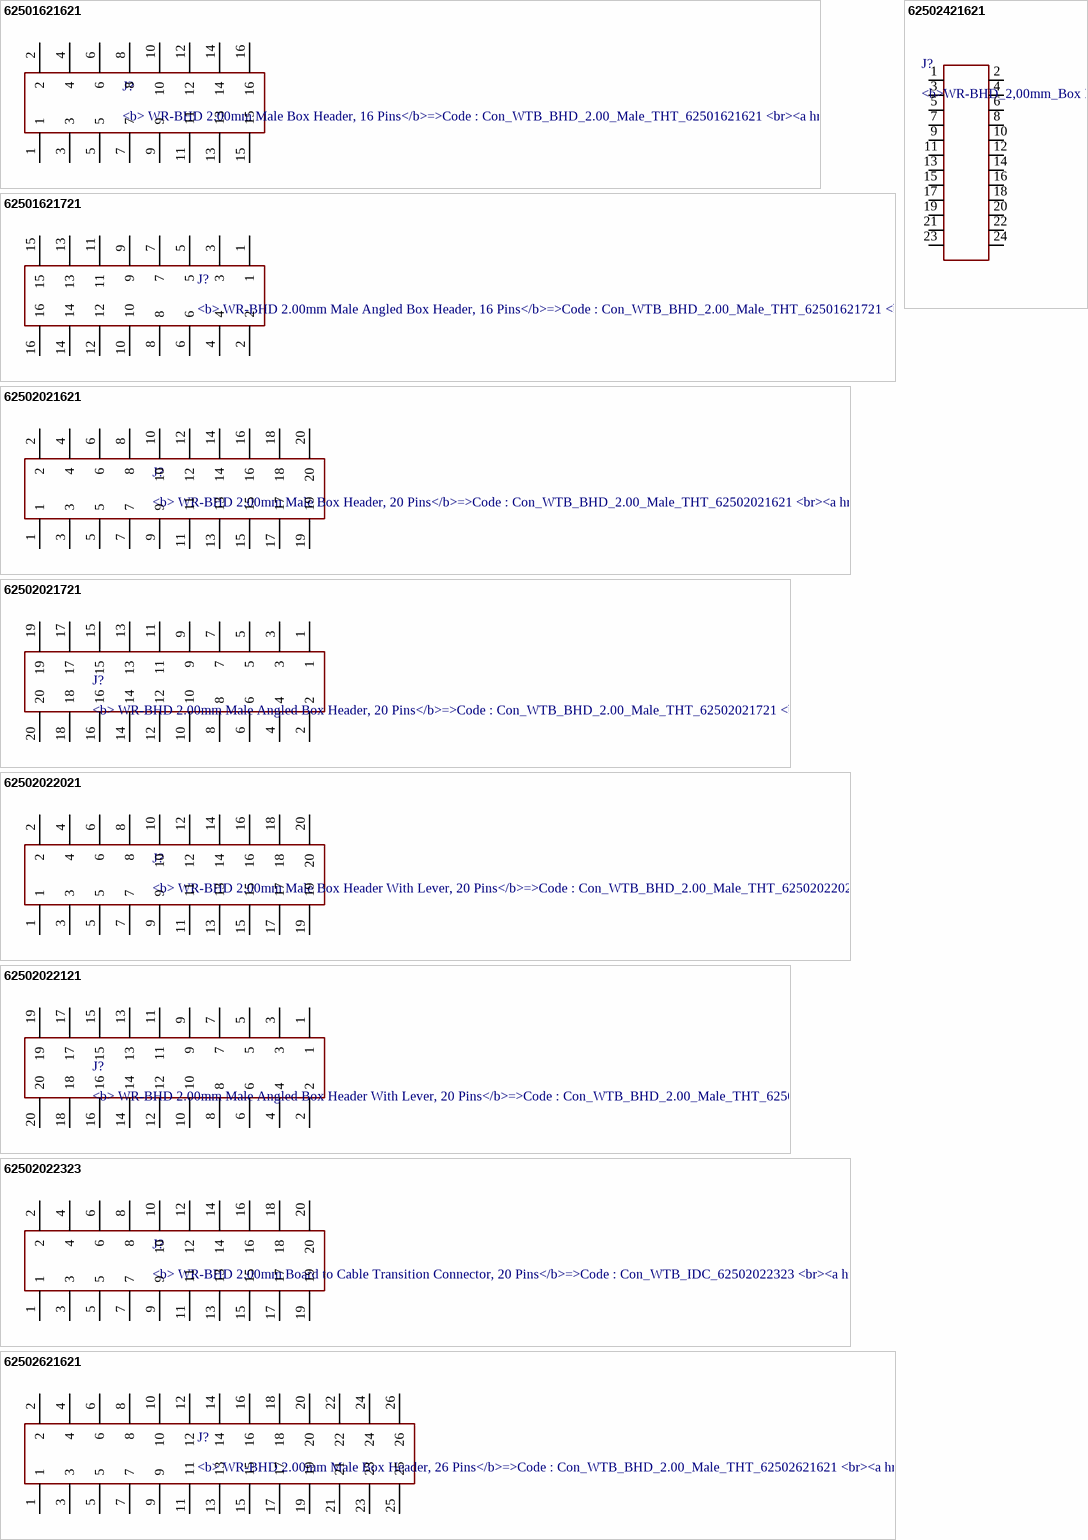
[diagram p17: symbols 62501621621 to 62502621621]

## 62501621621
designator J?, comment <b> WR-BHD 2.00mm Male Box Header, 16 Pins</b>=>Code : Con_WTB_BHD_2.00_Male_THT_62501621621 / <br><a href="http://katalog.we-online.de/media/thumbs2/eican/thb_Con_WTB_BHD_2.00_Male_THT_6250xx21621_pf2.jpg" title="Enlarge picture"> / <img src="http://katalog.we-online.de/media/thumbs2/eican/thb_Con_WTB_BHD_2.00_Male_THT_6250xx21621_pf2.jpg"  width="320"></a><p> / Details see: <a href="http://katalog.we-online.de/en/em/625_0xx_216_21">http://katalog.we-online.de/en/em/625_0xx_216_21</a><p> / Created 2014-06-05, Karrer Zheng<br> / 2014 (C) Würth Elektronik
footprint 62501621621
pins: 1, 2, 3, 4, 5, 6, 7, 8, 9, 10, 11, 12, 13, 14, 15, 16

## 62501621721
designator J?, comment <b> WR-BHD 2.00mm Male Angled Box Header, 16 Pins</b>=>Code : Con_WTB_BHD_2.00_Male_THT_62501621721 / <br><a href="http://katalog.we-online.de/media/thumbs2/eican/thb_Con_WTB_BHD_2.00_Male_THT_6250xx21721_pf2.jpg" title="Enlarge picture"> / <img src="http://katalog.we-online.de/media/thumbs2/eican/thb_Con_WTB_BHD_2.00_Male_THT_6250xx21721_pf2.jpg"  width="320"></a><p> / Details see: <a href="http://katalog.we-online.de/en/em/625_0xx_217_21">http://katalog.we-online.de/en/em/625_0xx_217_21</a><p> / Created 2014-06-05, Karrer Zheng<br> / 2014 (C) Würth Elektronik
footprint 62501621721
pins: 1, 2, 3, 4, 5, 6, 7, 8, 9, 10, 11, 12, 13, 14, 15, 16

## 62502021621
designator J?, comment <b> WR-BHD 2.00mm Male Box Header, 20 Pins</b>=>Code : Con_WTB_BHD_2.00_Male_THT_62502021621 / <br><a href="http://katalog.we-online.de/media/thumbs2/eican/thb_Con_WTB_BHD_2.00_Male_THT_6250xx21621_pf2.jpg" title="Enlarge picture"> / <img src="http://katalog.we-online.de/media/thumbs2/eican/thb_Con_WTB_BHD_2.00_Male_THT_6250xx21621_pf2.jpg"  width="320"></a><p> / Details see: <a href="http://katalog.we-online.de/en/em/625_0xx_216_21">http://katalog.we-online.de/en/em/625_0xx_216_21</a><p> / Created 2014-06-05, Karrer Zheng<br> / 2014 (C) Würth Elektronik
footprint 62502021621
pins: 1, 2, 3, 4, 5, 6, 7, 8, 9, 10, 11, 12, 13, 14, 15, 16, 17, 18, 19, 20

## 62502021721
designator J?, comment <b> WR-BHD 2.00mm Male Angled Box Header, 20 Pins</b>=>Code : Con_WTB_BHD_2.00_Male_THT_62502021721 / <br><a href="http://katalog.we-online.de/media/thumbs2/eican/thb_Con_WTB_BHD_2.00_Male_THT_6250xx21721_pf2.jpg" title="Enlarge picture"> / <img src="http://katalog.we-online.de/media/thumbs2/eican/thb_Con_WTB_BHD_2.00_Male_THT_6250xx21721_pf2.jpg"  width="320"></a><p> / Details see: <a href="http://katalog.we-online.de/en/em/625_0xx_217_21">http://katalog.we-online.de/en/em/625_0xx_217_21</a><p> / Created 2014-06-05, Karrer Zheng<br> / 2014 (C) Würth Elektronik
footprint 62502021721
pins: 1, 2, 3, 4, 5, 6, 7, 8, 9, 10, 11, 12, 13, 14, 15, 16, 17, 18, 19, 20

## 62502022021
designator J?, comment <b> WR-BHD 2.00mm Male Box Header With Lever, 20 Pins</b>=>Code : Con_WTB_BHD_2.00_Male_THT_62502022021 / <br><a href="http://katalog.we-online.de/media/thumbs2/eican/thb_Con_WTB_BHD_2.00_Male_THT_6250xx22021_pf2.jpg" title="Enlarge picture"> / <img src="http://katalog.we-online.de/media/thumbs2/eican/thb_Con_WTB_BHD_2.00_Male_THT_6250xx22021_pf2.jpg"  width="320"></a><p> / Details see: <a href="http://katalog.we-online.de/en/em/625_0xx_220_21">http://katalog.we-online.de/en/em/625_0xx_220_21</a><p> / Created 2014-06-05, Karrer Zheng<br> / 2014 (C) Würth Elektronik
footprint 62502022021
pins: 1, 2, 3, 4, 5, 6, 7, 8, 9, 10, 11, 12, 13, 14, 15, 16, 17, 18, 19, 20

## 62502022121
designator J?, comment <b> WR-BHD 2.00mm Male Angled Box Header With Lever, 20 Pins</b>=>Code : Con_WTB_BHD_2.00_Male_THT_62502022121 / <br><a href="http://katalog.we-online.de/media/thumbs2/eican/thb_Con_WTB_BHD_2.00_Male_THT_6250xx22121_pf2.jpg" title="Enlarge picture"> / <img src="http://katalog.we-online.de/media/thumbs2/eican/thb_Con_WTB_BHD_2.00_Male_THT_6250xx22121_pf2.jpg"  width="320"></a><p> / Details see: <a href="http://katalog.we-online.de/en/em/625_0xx_221_21">http://katalog.we-online.de/en/em/625_0xx_221_21</a><p> / Created 2014-06-05, Karrer Zheng<br> / 2014 (C) Würth Elektronik
footprint 62502022121
pins: 1, 2, 3, 4, 5, 6, 7, 8, 9, 10, 11, 12, 13, 14, 15, 16, 17, 18, 19, 20

## 62502022323
designator J?, comment <b> WR-BHD 2.00mm Board to Cable Transition Connector, 20 Pins</b>=>Code : Con_WTB_IDC_62502022323 / <br><a href="http://katalog.we-online.de/media/thumbs2/eican/thb_Con_WTB_IDC_6250xx22323_pf2.jpg" title="Enlarge picture"> / <img src="http://katalog.we-online.de/media/thumbs2/eican/thb_Con_WTB_IDC_6250xx22323_pf2.jpg"  width="320"></a><p> / Details see: <a href="http://katalog.we-online.de/en/em/625_0xx_223_23">http://katalog.we-online.de/en/em/625_0xx_223_23</a><p> / Created 2014-06-05, Karrer Zheng<br> / 2014 (C) Würth Elektronik
footprint 62502022323
pins: 1, 2, 3, 4, 5, 6, 7, 8, 9, 10, 11, 12, 13, 14, 15, 16, 17, 18, 19, 20

## 62502421621
designator J?, comment <b>WR-BHD_2,00mm_Box Header - 24 Pins;</b>=>Code :  _62502421621 / <p><a href="http://katalog.we-online.de/media/images/eican/"> / <img src="http://katalog.we-online.de/media/thumbs2/eican/" width="320"></a><p> / <p>Details see: <a href="http://katalog.we-online.de/em/datasheet/6250xx21621.pdf">http://katalog.we-online.de/em/datasheet/6250xx21621.pdf</a> / <p>Created 11/27/2014, Karrer Zheng / <p>2014 (C) Wurth Elektronik
footprint 62502421621
pins: 1, 2, 3, 4, 5, 6, 7, 8, 9, 10, 11, 12, 13, 14, 15, 16, 17, 18, 19, 20, 21, 22, 23, 24

## 62502621621
designator J?, comment <b> WR-BHD 2.00mm Male Box Header, 26 Pins</b>=>Code : Con_WTB_BHD_2.00_Male_THT_62502621621 / <br><a href="http://katalog.we-online.de/media/thumbs2/eican/thb_Con_WTB_BHD_2.00_Male_THT_6250xx21621_pf2.jpg" title="Enlarge picture"> / <img src="http://katalog.we-online.de/media/thumbs2/eican/thb_Con_WTB_BHD_2.00_Male_THT_6250xx21621_pf2.jpg"  width="320"></a><p> / Details see: <a href="http://katalog.we-online.de/en/em/625_0xx_216_21">http://katalog.we-online.de/en/em/625_0xx_216_21</a><p> / Created 2014-06-05, Karrer Zheng<br> / 2014 (C) Würth Elektronik
footprint 62502621621
pins: 1, 2, 3, 4, 5, 6, 7, 8, 9, 10, 11, 12, 13, 14, 15, 16, 17, 18, 19, 20, 21, 22, 23, 24, 25, 26

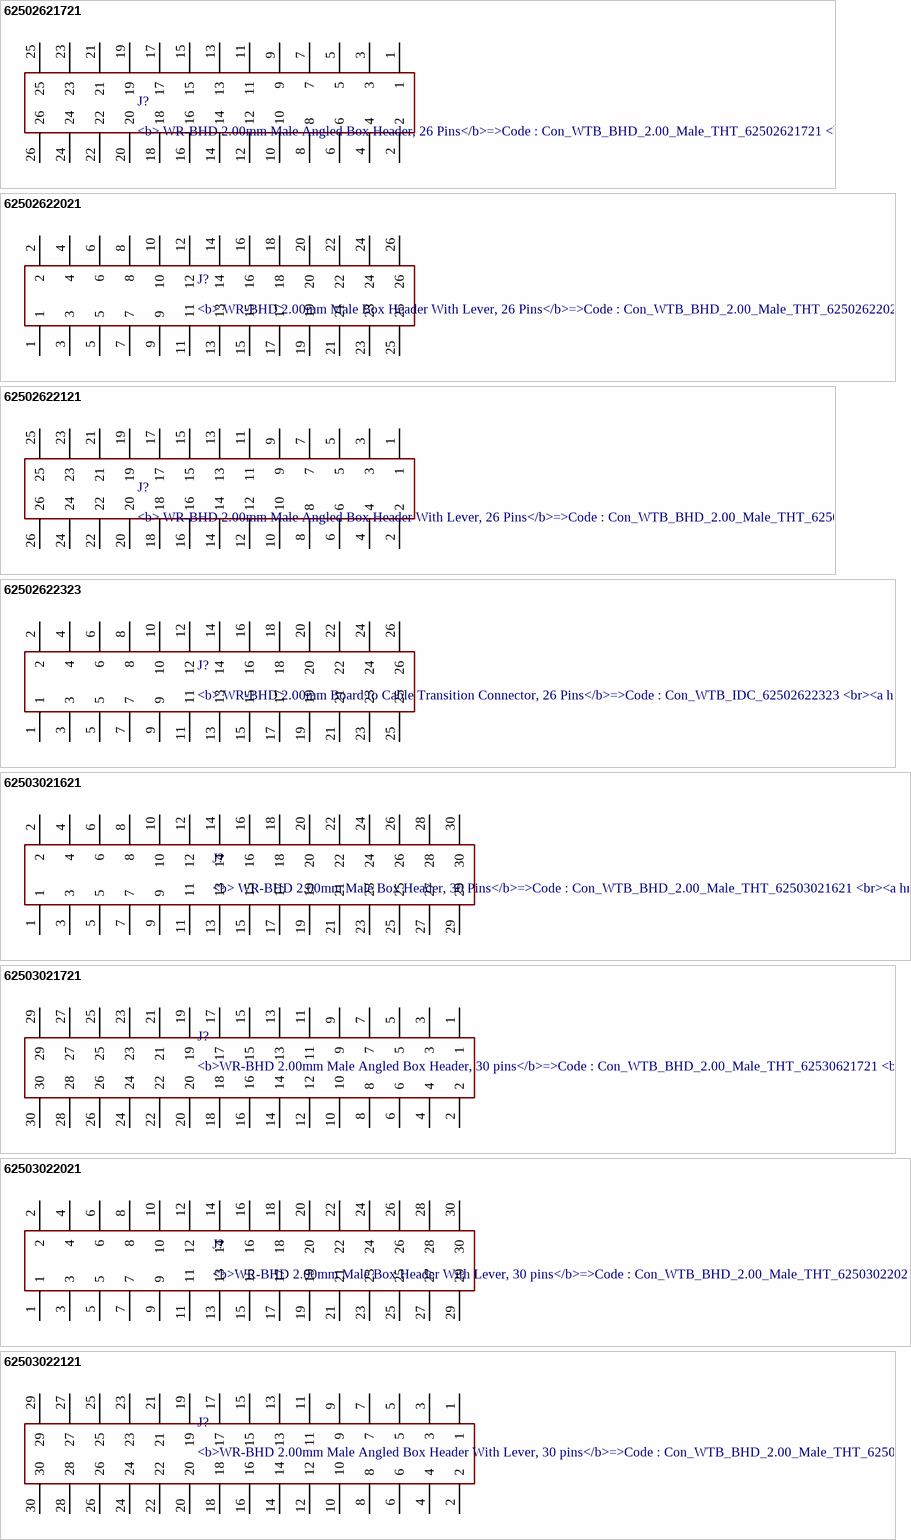
[diagram p18: symbols 62502621721 to 62503022121]

## 62502621721
designator J?, comment <b> WR-BHD 2.00mm Male Angled Box Header, 26 Pins</b>=>Code : Con_WTB_BHD_2.00_Male_THT_62502621721 / <br><a href="http://katalog.we-online.de/media/thumbs2/eican/thb_Con_WTB_BHD_2.00_Male_THT_6250xx21721_pf2.jpg" title="Enlarge picture"> / <img src="http://katalog.we-online.de/media/thumbs2/eican/thb_Con_WTB_BHD_2.00_Male_THT_6250xx21721_pf2.jpg"  width="320"></a><p> / Details see: <a href="http://katalog.we-online.de/en/em/625_0xx_217_21">http://katalog.we-online.de/en/em/625_0xx_217_21</a><p> / Created 2014-06-05, Karrer Zheng<br> / 2014 (C) Würth Elektronik
footprint 62502621721
pins: 1, 2, 3, 4, 5, 6, 7, 8, 9, 10, 11, 12, 13, 14, 15, 16, 17, 18, 19, 20, 21, 22, 23, 24, 25, 26

## 62502622021
designator J?, comment <b> WR-BHD 2.00mm Male Box Header With Lever, 26 Pins</b>=>Code : Con_WTB_BHD_2.00_Male_THT_62502622021 / <br><a href="http://katalog.we-online.de/media/thumbs2/eican/thb_Con_WTB_BHD_2.00_Male_THT_6250xx22021_pf2.jpg" title="Enlarge picture"> / <img src="http://katalog.we-online.de/media/thumbs2/eican/thb_Con_WTB_BHD_2.00_Male_THT_6250xx22021_pf2.jpg"  width="320"></a><p> / Details see: <a href="http://katalog.we-online.de/en/em/625_0xx_220_21">http://katalog.we-online.de/en/em/625_0xx_220_21</a><p> / Created 2014-06-05, Karrer Zheng<br> / 2014 (C) Würth Elektronik
footprint 62502622021
pins: 1, 2, 3, 4, 5, 6, 7, 8, 9, 10, 11, 12, 13, 14, 15, 16, 17, 18, 19, 20, 21, 22, 23, 24, 25, 26

## 62502622121
designator J?, comment <b> WR-BHD 2.00mm Male Angled Box Header With Lever, 26 Pins</b>=>Code : Con_WTB_BHD_2.00_Male_THT_62502622121 / <br><a href="http://katalog.we-online.de/media/thumbs2/eican/thb_Con_WTB_BHD_2.00_Male_THT_6250xx22121_pf2.jpg" title="Enlarge picture"> / <img src="http://katalog.we-online.de/media/thumbs2/eican/thb_Con_WTB_BHD_2.00_Male_THT_6250xx22121_pf2.jpg"  width="320"></a><p> / Details see: <a href="http://katalog.we-online.de/en/em/625_0xx_221_21">http://katalog.we-online.de/en/em/625_0xx_221_21</a><p> / Created 2014-06-05, Karrer Zheng<br> / 2014 (C) Würth Elektronik
footprint 62502622121
pins: 1, 2, 3, 4, 5, 6, 7, 8, 9, 10, 11, 12, 13, 14, 15, 16, 17, 18, 19, 20, 21, 22, 23, 24, 25, 26

## 62502622323
designator J?, comment <b> WR-BHD 2.00mm Board to Cable Transition Connector, 26 Pins</b>=>Code : Con_WTB_IDC_62502622323 / <br><a href="http://katalog.we-online.de/media/thumbs2/eican/thb_Con_WTB_IDC_6250xx22323_pf2.jpg" title="Enlarge picture"> / <img src="http://katalog.we-online.de/media/thumbs2/eican/thb_Con_WTB_IDC_6250xx22323_pf2.jpg"  width="320"></a><p> / Details see: <a href="http://katalog.we-online.de/en/em/625_0xx_223_23">http://katalog.we-online.de/en/em/625_0xx_223_23</a><p> / Created 2014-06-05, Karrer Zheng<br> / 2014 (C) Würth Elektronik
footprint 62502622323
pins: 1, 2, 3, 4, 5, 6, 7, 8, 9, 10, 11, 12, 13, 14, 15, 16, 17, 18, 19, 20, 21, 22, 23, 24, 25, 26

## 62503021621
designator J?, comment <b> WR-BHD 2.00mm Male Box Header, 30 Pins</b>=>Code : Con_WTB_BHD_2.00_Male_THT_62503021621 / <br><a href="http://katalog.we-online.de/media/thumbs2/eican/thb_Con_WTB_BHD_2.00_Male_THT_6250xx21621_pf2.jpg" title="Enlarge picture"> / <img src="http://katalog.we-online.de/media/thumbs2/eican/thb_Con_WTB_BHD_2.00_Male_THT_6250xx21621_pf2.jpg"  width="320"></a><p> / Details see: <a href="http://katalog.we-online.de/en/em/625_0xx_216_21">http://katalog.we-online.de/en/em/625_0xx_216_21</a><p> / Created 2014-06-05, Karrer Zheng<br> / 2014 (C) Würth Elektronik
footprint 62503021621
pins: 1, 2, 3, 4, 5, 6, 7, 8, 9, 10, 11, 12, 13, 14, 15, 16, 17, 18, 19, 20, 21, 22, 23, 24, 25, 26, 27, 28, 29, 30

## 62503021721
designator J?, comment <b>WR-BHD 2.00mm Male Angled Box Header, 30 pins</b>=>Code : Con_WTB_BHD_2.00_Male_THT_62530621721 / <br><a href="http://katalog.we-online.de/media/thumbs2/eican/thb_Con_WTB_BHD_2.00_Male_THT_6250xx21721_pf2.jpg" title="Enlarge picture"> / <img src="http://katalog.we-online.de/media/thumbs2/eican/thb_Con_WTB_BHD_2.00_Male_THT_6250xx21721_pf2.jpg"  width="320"></a><p> / Details see: <a href="http://katalog.we-online.de/en/em/625_0xx_217_21">http://katalog.we-online.de/en/em/625_0xx_217_21</a><p> / Created 2014-06-05, Karrer Zheng<br> / 2014 (C) Würth Elektronik
footprint 62503021721
pins: 1, 2, 3, 4, 5, 6, 7, 8, 9, 10, 11, 12, 13, 14, 15, 16, 17, 18, 19, 20, 21, 22, 23, 24, 25, 26, 27, 28, 29, 30

## 62503022021
designator J?, comment <b>WR-BHD 2.00mm Male Box Header With Lever, 30 pins</b>=>Code : Con_WTB_BHD_2.00_Male_THT_62503022021 / <br><a href="http://katalog.we-online.de/media/thumbs2/eican/thb_Con_WTB_BHD_2.00_Male_THT_6250xx22021_pf2.jpg" title="Enlarge picture"> / <img src="http://katalog.we-online.de/media/thumbs2/eican/thb_Con_WTB_BHD_2.00_Male_THT_6250xx22021_pf2.jpg"  width="320"></a><p> / Details see: <a href="http://katalog.we-online.de/en/em/625_0xx_220_21">http://katalog.we-online.de/en/em/625_0xx_220_21</a><p> / Created 2014-06-05, Karrer Zheng<br> / 2014 (C) Würth Elektronik
footprint 62503022021
pins: 1, 2, 3, 4, 5, 6, 7, 8, 9, 10, 11, 12, 13, 14, 15, 16, 17, 18, 19, 20, 21, 22, 23, 24, 25, 26, 27, 28, 29, 30

## 62503022121
designator J?, comment <b>WR-BHD 2.00mm Male Angled Box Header With Lever, 30 pins</b>=>Code : Con_WTB_BHD_2.00_Male_THT_62503022121 / <br><a href="http://katalog.we-online.de/media/thumbs2/eican/thb_Con_WTB_BHD_2.00_Male_THT_6250xx22121_pf2.jpg" title="Enlarge picture"> / <img src="http://katalog.we-online.de/media/thumbs2/eican/thb_Con_WTB_BHD_2.00_Male_THT_6250xx22121_pf2.jpg"  width="320"></a><p> / Details see: <a href="http://katalog.we-online.de/en/em/625_0xx_221_21">http://katalog.we-online.de/en/em/625_0xx_221_21</a><p> / Created 2014-06-05, Karrer Zheng<br> / 2014 (C) Würth Elektronik
footprint 62503022121
pins: 1, 2, 3, 4, 5, 6, 7, 8, 9, 10, 11, 12, 13, 14, 15, 16, 17, 18, 19, 20, 21, 22, 23, 24, 25, 26, 27, 28, 29, 30

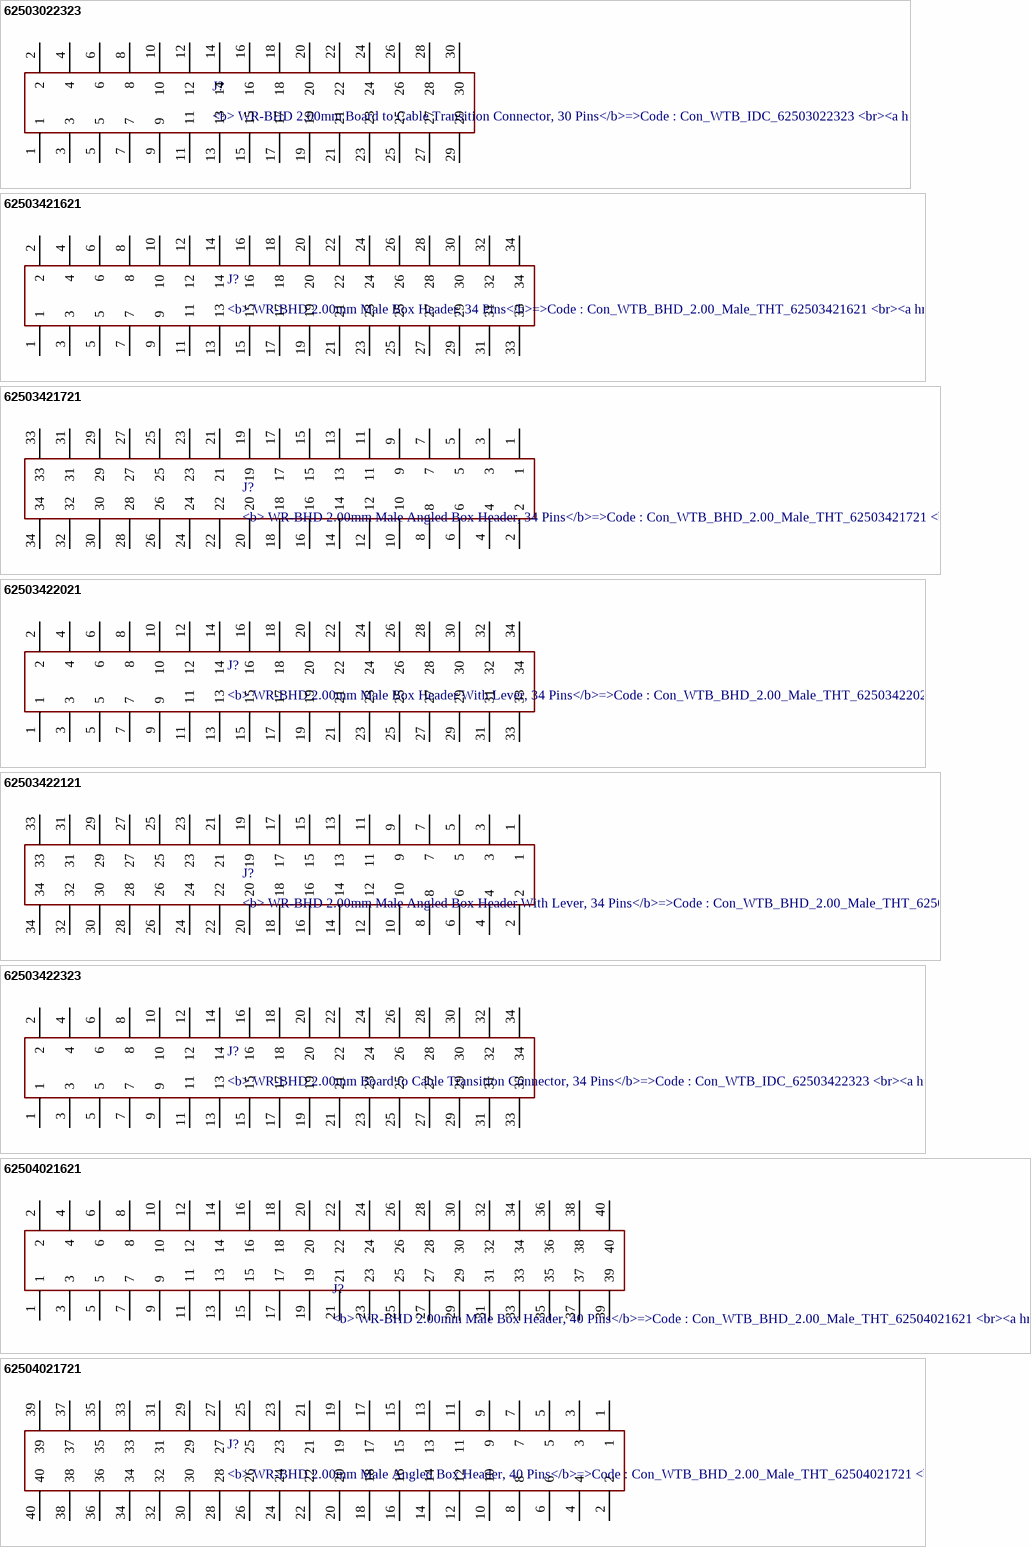
[diagram p19: symbols 62503022323 to 62504021721]

## 62503022323
designator J?, comment <b> WR-BHD 2.00mm Board to Cable Transition Connector, 30 Pins</b>=>Code : Con_WTB_IDC_62503022323 / <br><a href="http://katalog.we-online.de/media/thumbs2/eican/thb_Con_WTB_IDC_6250xx22323_pf2.jpg" title="Enlarge picture"> / <img src="http://katalog.we-online.de/media/thumbs2/eican/thb_Con_WTB_IDC_6250xx22323_pf2.jpg"  width="320"></a><p> / Details see: <a href="http://katalog.we-online.de/en/em/625_0xx_223_23">http://katalog.we-online.de/en/em/625_0xx_223_23</a><p> / Created 2014-06-05, Karrer Zheng<br> / 2014 (C) Würth Elektronik
footprint 62503022323
pins: 1, 2, 3, 4, 5, 6, 7, 8, 9, 10, 11, 12, 13, 14, 15, 16, 17, 18, 19, 20, 21, 22, 23, 24, 25, 26, 27, 28, 29, 30

## 62503421621
designator J?, comment <b> WR-BHD 2.00mm Male Box Header, 34 Pins</b>=>Code : Con_WTB_BHD_2.00_Male_THT_62503421621 / <br><a href="http://katalog.we-online.de/media/thumbs2/eican/thb_Con_WTB_BHD_2.00_Male_THT_6250xx21621_pf2.jpg" title="Enlarge picture"> / <img src="http://katalog.we-online.de/media/thumbs2/eican/thb_Con_WTB_BHD_2.00_Male_THT_6250xx21621_pf2.jpg"  width="320"></a><p> / Details see: <a href="http://katalog.we-online.de/en/em/625_0xx_216_21">http://katalog.we-online.de/en/em/625_0xx_216_21</a><p> / Created 2014-06-05, Karrer Zheng<br> / 2014 (C) Würth Elektronik
footprint 62503421621
pins: 1, 2, 3, 4, 5, 6, 7, 8, 9, 10, 11, 12, 13, 14, 15, 16, 17, 18, 19, 20, 21, 22, 23, 24, 25, 26, 27, 28, 29, 30, 31, 32, 33, 34

## 62503421721
designator J?, comment <b> WR-BHD 2.00mm Male Angled Box Header, 34 Pins</b>=>Code : Con_WTB_BHD_2.00_Male_THT_62503421721 / <br><a href="http://katalog.we-online.de/media/thumbs2/eican/thb_Con_WTB_BHD_2.00_Male_THT_6250xx21721_pf2.jpg" title="Enlarge picture"> / <img src="http://katalog.we-online.de/media/thumbs2/eican/thb_Con_WTB_BHD_2.00_Male_THT_6250xx21721_pf2.jpg"  width="320"></a><p> / Details see: <a href="http://katalog.we-online.de/en/em/625_0xx_217_21">http://katalog.we-online.de/en/em/625_0xx_217_21</a><p> / Created 2014-06-05, Karrer Zheng<br> / 2014 (C) Würth Elektronik
footprint 62503421721
pins: 1, 2, 3, 4, 5, 6, 7, 8, 9, 10, 11, 12, 13, 14, 15, 16, 17, 18, 19, 20, 21, 22, 23, 24, 25, 26, 27, 28, 29, 30, 31, 32, 33, 34

## 62503422021
designator J?, comment <b> WR-BHD 2.00mm Male Box Header With Lever, 34 Pins</b>=>Code : Con_WTB_BHD_2.00_Male_THT_62503422021 / <br><a href="http://katalog.we-online.de/media/thumbs2/eican/thb_Con_WTB_BHD_2.00_Male_THT_6250xx22021_pf2.jpg" title="Enlarge picture"> / <img src="http://katalog.we-online.de/media/thumbs2/eican/thb_Con_WTB_BHD_2.00_Male_THT_6250xx22021_pf2.jpg"  width="320"></a><p> / Details see: <a href="http://katalog.we-online.de/en/em/625_0xx_220_21">http://katalog.we-online.de/en/em/625_0xx_220_21</a><p> / Created 2014-06-05, Karrer Zheng<br> / 2014 (C) Würth Elektronik
footprint 62503422021
pins: 1, 2, 3, 4, 5, 6, 7, 8, 9, 10, 11, 12, 13, 14, 15, 16, 17, 18, 19, 20, 21, 22, 23, 24, 25, 26, 27, 28, 29, 30, 31, 32, 33, 34

## 62503422121
designator J?, comment <b> WR-BHD 2.00mm Male Angled Box Header With Lever, 34 Pins</b>=>Code : Con_WTB_BHD_2.00_Male_THT_62503422121 / <br><a href="http://katalog.we-online.de/media/thumbs2/eican/thb_Con_WTB_BHD_2.00_Male_THT_6250xx22121_pf2.jpg" title="Enlarge picture"> / <img src="http://katalog.we-online.de/media/thumbs2/eican/thb_Con_WTB_BHD_2.00_Male_THT_6250xx22121_pf2.jpg"  width="320"></a><p> / Details see: <a href="http://katalog.we-online.de/en/em/625_0xx_221_21">http://katalog.we-online.de/en/em/625_0xx_221_21</a><p> / Created 2014-06-05, Karrer Zheng<br> / 2014 (C) Würth Elektronik
footprint 62503422121
pins: 1, 2, 3, 4, 5, 6, 7, 8, 9, 10, 11, 12, 13, 14, 15, 16, 17, 18, 19, 20, 21, 22, 23, 24, 25, 26, 27, 28, 29, 30, 31, 32, 33, 34

## 62503422323
designator J?, comment <b> WR-BHD 2.00mm Board to Cable Transition Connector, 34 Pins</b>=>Code : Con_WTB_IDC_62503422323 / <br><a href="http://katalog.we-online.de/media/thumbs2/eican/thb_Con_WTB_IDC_6250xx22323_pf2.jpg" title="Enlarge picture"> / <img src="http://katalog.we-online.de/media/thumbs2/eican/thb_Con_WTB_IDC_6250xx22323_pf2.jpg"  width="320"></a><p> / Details see: <a href="http://katalog.we-online.de/en/em/625_0xx_223_23">http://katalog.we-online.de/en/em/625_0xx_223_23</a><p> / Created 2014-06-05, Karrer Zheng<br> / 2014 (C) Würth Elektronik
footprint 62503422323
pins: 1, 2, 3, 4, 5, 6, 7, 8, 9, 10, 11, 12, 13, 14, 15, 16, 17, 18, 19, 20, 21, 22, 23, 24, 25, 26, 27, 28, 29, 30, 31, 32, 33, 34

## 62504021621
designator J?, comment <b> WR-BHD 2.00mm Male Box Header, 40 Pins</b>=>Code : Con_WTB_BHD_2.00_Male_THT_62504021621 / <br><a href="http://katalog.we-online.de/media/thumbs2/eican/thb_Con_WTB_BHD_2.00_Male_THT_6250xx21621_pf2.jpg" title="Enlarge picture"> / <img src="http://katalog.we-online.de/media/thumbs2/eican/thb_Con_WTB_BHD_2.00_Male_THT_6250xx21621_pf2.jpg"  width="320"></a><p> / Details see: <a href="http://katalog.we-online.de/en/em/625_0xx_216_21">http://katalog.we-online.de/en/em/625_0xx_216_21</a><p> / Created 2014-06-05, Karrer Zheng<br> / 2014 (C) Würth Elektronik
footprint 62504021621
pins: 1, 2, 3, 4, 5, 6, 7, 8, 9, 10, 11, 12, 13, 14, 15, 16, 17, 18, 19, 20, 21, 22, 23, 24, 25, 26, 27, 28, 29, 30, 31, 32, 33, 34, 35, 36, 37, 38, 39, 40

## 62504021721
designator J?, comment <b> WR-BHD 2.00mm Male Angled Box Header, 40 Pins</b>=>Code : Con_WTB_BHD_2.00_Male_THT_62504021721 / <br><a href="http://katalog.we-online.de/media/thumbs2/eican/thb_Con_WTB_BHD_2.00_Male_THT_6250xx21721_pf2.jpg" title="Enlarge picture"> / <img src="http://katalog.we-online.de/media/thumbs2/eican/thb_Con_WTB_BHD_2.00_Male_THT_6250xx21721_pf2.jpg"  width="320"></a><p> / Details see: <a href="http://katalog.we-online.de/en/em/625_0xx_217_21">http://katalog.we-online.de/en/em/625_0xx_217_21</a><p> / Created 2014-06-05, Karrer Zheng<br> / 2014 (C) Würth Elektronik
footprint 62504021721
pins: 1, 2, 3, 4, 5, 6, 7, 8, 9, 10, 11, 12, 13, 14, 15, 16, 17, 18, 19, 20, 21, 22, 23, 24, 25, 26, 27, 28, 29, 30, 31, 32, 33, 34, 35, 36, 37, 38, 39, 40

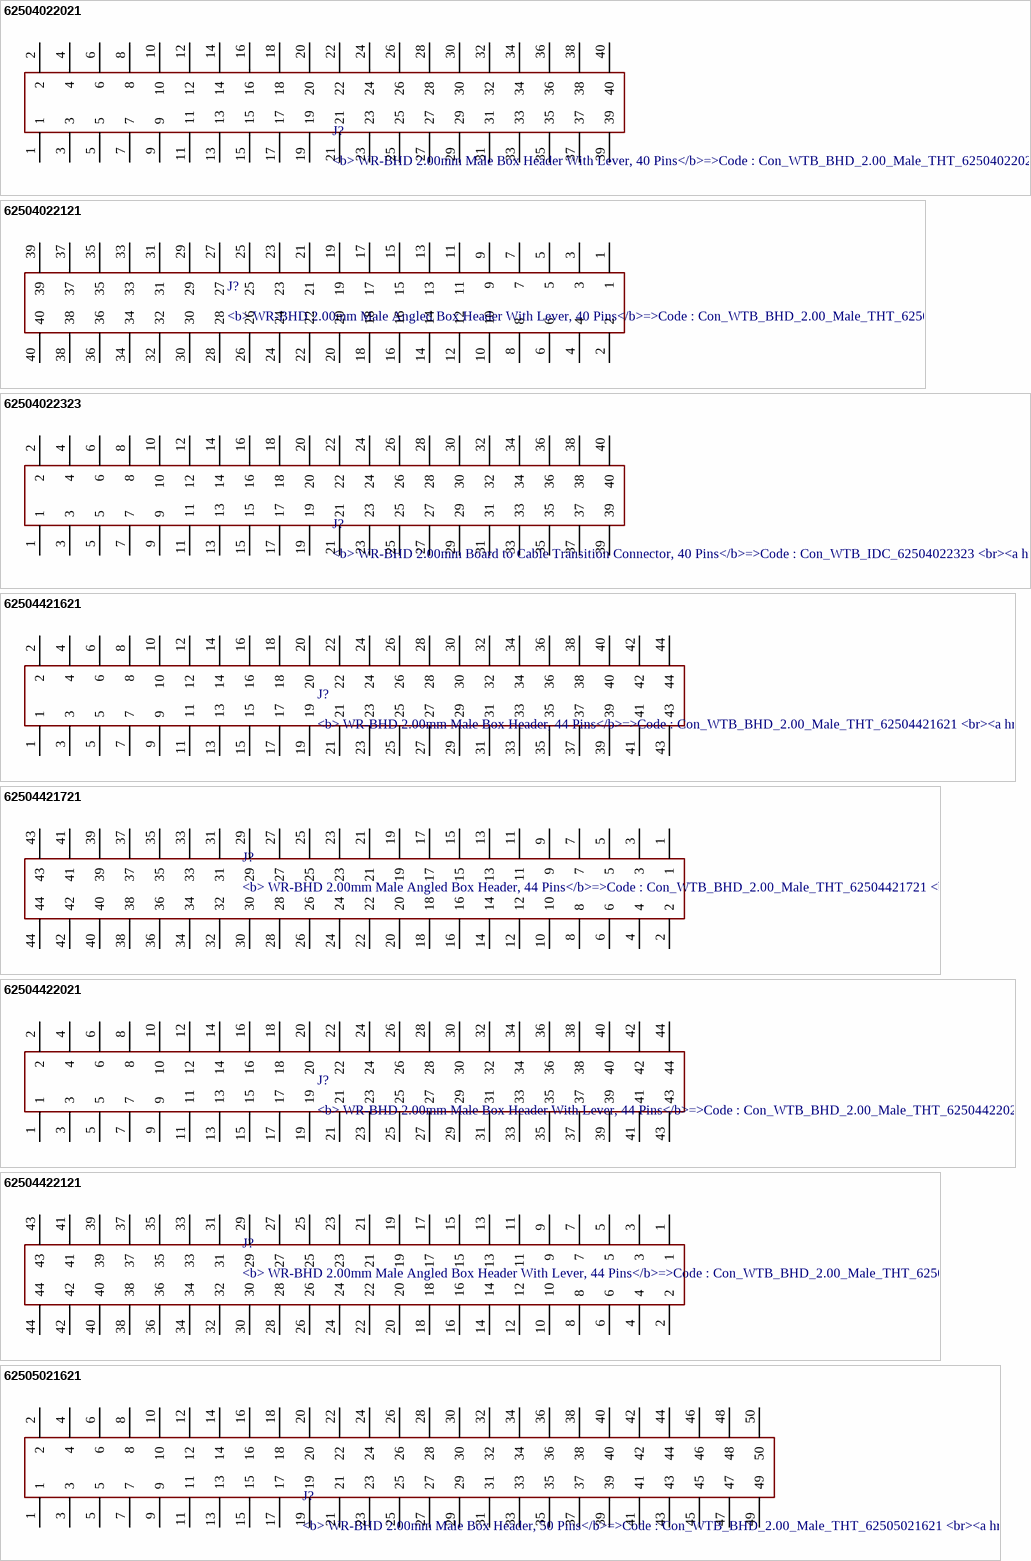
[diagram p20: symbols 62504022021 to 62505021621]

## 62504022021
designator J?, comment <b> WR-BHD 2.00mm Male Box Header With Lever, 40 Pins</b>=>Code : Con_WTB_BHD_2.00_Male_THT_62504022021 / <br><a href="http://katalog.we-online.de/media/thumbs2/eican/thb_Con_WTB_BHD_2.00_Male_THT_6250xx22021_pf2.jpg" title="Enlarge picture"> / <img src="http://katalog.we-online.de/media/thumbs2/eican/thb_Con_WTB_BHD_2.00_Male_THT_6250xx22021_pf2.jpg"  width="320"></a><p> / Details see: <a href="http://katalog.we-online.de/en/em/625_0xx_220_21">http://katalog.we-online.de/en/em/625_0xx_220_21</a><p> / Created 2014-06-05, Karrer Zheng<br> / 2014 (C) Würth Elektronik
footprint 62504022021
pins: 1, 2, 3, 4, 5, 6, 7, 8, 9, 10, 11, 12, 13, 14, 15, 16, 17, 18, 19, 20, 21, 22, 23, 24, 25, 26, 27, 28, 29, 30, 31, 32, 33, 34, 35, 36, 37, 38, 39, 40

## 62504022121
designator J?, comment <b> WR-BHD 2.00mm Male Angled Box Header With Lever, 40 Pins</b>=>Code : Con_WTB_BHD_2.00_Male_THT_62504022121 / <br><a href="http://katalog.we-online.de/media/thumbs2/eican/thb_Con_WTB_BHD_2.00_Male_THT_6250xx22121_pf2.jpg" title="Enlarge picture"> / <img src="http://katalog.we-online.de/media/thumbs2/eican/thb_Con_WTB_BHD_2.00_Male_THT_6250xx22121_pf2.jpg"  width="320"></a><p> / Details see: <a href="http://katalog.we-online.de/en/em/625_0xx_221_21">http://katalog.we-online.de/en/em/625_0xx_221_21</a><p> / Created 2014-06-05, Karrer Zheng<br> / 2014 (C) Würth Elektronik
footprint 62504022121
pins: 1, 2, 3, 4, 5, 6, 7, 8, 9, 10, 11, 12, 13, 14, 15, 16, 17, 18, 19, 20, 21, 22, 23, 24, 25, 26, 27, 28, 29, 30, 31, 32, 33, 34, 35, 36, 37, 38, 39, 40

## 62504022323
designator J?, comment <b> WR-BHD 2.00mm Board to Cable Transition Connector, 40 Pins</b>=>Code : Con_WTB_IDC_62504022323 / <br><a href="http://katalog.we-online.de/media/thumbs2/eican/thb_Con_WTB_IDC_6250xx22323_pf2.jpg" title="Enlarge picture"> / <img src="http://katalog.we-online.de/media/thumbs2/eican/thb_Con_WTB_IDC_6250xx22323_pf2.jpg"  width="320"></a><p> / Details see: <a href="http://katalog.we-online.de/en/em/625_0xx_223_23">http://katalog.we-online.de/en/em/625_0xx_223_23</a><p> / Created 2014-06-05, Karrer Zheng<br> / 2014 (C) Würth Elektronik
footprint 62504022323
pins: 1, 2, 3, 4, 5, 6, 7, 8, 9, 10, 11, 12, 13, 14, 15, 16, 17, 18, 19, 20, 21, 22, 23, 24, 25, 26, 27, 28, 29, 30, 31, 32, 33, 34, 35, 36, 37, 38, 39, 40

## 62504421621
designator J?, comment <b> WR-BHD 2.00mm Male Box Header, 44 Pins</b>=>Code : Con_WTB_BHD_2.00_Male_THT_62504421621 / <br><a href="http://katalog.we-online.de/media/thumbs2/eican/thb_Con_WTB_BHD_2.00_Male_THT_6250xx21621_pf2.jpg" title="Enlarge picture"> / <img src="http://katalog.we-online.de/media/thumbs2/eican/thb_Con_WTB_BHD_2.00_Male_THT_6250xx21621_pf2.jpg"  width="320"></a><p> / Details see: <a href="http://katalog.we-online.de/en/em/625_0xx_216_21">http://katalog.we-online.de/en/em/625_0xx_216_21</a><p> / Created 2014-06-05, Karrer Zheng<br> / 2014 (C) Würth Elektronik
footprint 62504421621
pins: 1, 2, 3, 4, 5, 6, 7, 8, 9, 10, 11, 12, 13, 14, 15, 16, 17, 18, 19, 20, 21, 22, 23, 24, 25, 26, 27, 28, 29, 30, 31, 32, 33, 34, 35, 36, 37, 38, 39, 40, 41, 42, 43, 44

## 62504421721
designator J?, comment <b> WR-BHD 2.00mm Male Angled Box Header, 44 Pins</b>=>Code : Con_WTB_BHD_2.00_Male_THT_62504421721 / <br><a href="http://katalog.we-online.de/media/thumbs2/eican/thb_Con_WTB_BHD_2.00_Male_THT_6250xx21721_pf2.jpg" title="Enlarge picture"> / <img src="http://katalog.we-online.de/media/thumbs2/eican/thb_Con_WTB_BHD_2.00_Male_THT_6250xx21721_pf2.jpg"  width="320"></a><p> / Details see: <a href="http://katalog.we-online.de/en/em/625_0xx_217_21">http://katalog.we-online.de/en/em/625_0xx_217_21</a><p> / Created 2014-06-05, Karrer Zheng<br> / 2014 (C) Würth Elektronik
footprint 62504421721
pins: 1, 2, 3, 4, 5, 6, 7, 8, 9, 10, 11, 12, 13, 14, 15, 16, 17, 18, 19, 20, 21, 22, 23, 24, 25, 26, 27, 28, 29, 30, 31, 32, 33, 34, 35, 36, 37, 38, 39, 40, 41, 42, 43, 44

## 62504422021
designator J?, comment <b> WR-BHD 2.00mm Male Box Header With Lever, 44 Pins</b>=>Code : Con_WTB_BHD_2.00_Male_THT_62504422021 / <br><a href="http://katalog.we-online.de/media/thumbs2/eican/thb_Con_WTB_BHD_2.00_Male_THT_6250xx22021_pf2.jpg" title="Enlarge picture"> / <img src="http://katalog.we-online.de/media/thumbs2/eican/thb_Con_WTB_BHD_2.00_Male_THT_6250xx22021_pf2.jpg"  width="320"></a><p> / Details see: <a href="http://katalog.we-online.de/en/em/625_0xx_220_21">http://katalog.we-online.de/en/em/625_0xx_220_21</a><p> / Created 2014-06-05, Karrer Zheng<br> / 2014 (C) Würth Elektronik
footprint 62504422021
pins: 1, 2, 3, 4, 5, 6, 7, 8, 9, 10, 11, 12, 13, 14, 15, 16, 17, 18, 19, 20, 21, 22, 23, 24, 25, 26, 27, 28, 29, 30, 31, 32, 33, 34, 35, 36, 37, 38, 39, 40, 41, 42, 43, 44

## 62504422121
designator J?, comment <b> WR-BHD 2.00mm Male Angled Box Header With Lever, 44 Pins</b>=>Code : Con_WTB_BHD_2.00_Male_THT_62504422121 / <br><a href="http://katalog.we-online.de/media/thumbs2/eican/thb_Con_WTB_BHD_2.00_Male_THT_6250xx22121_pf2.jpg" title="Enlarge picture"> / <img src="http://katalog.we-online.de/media/thumbs2/eican/thb_Con_WTB_BHD_2.00_Male_THT_6250xx22121_pf2.jpg"  width="320"></a><p> / Details see: <a href="http://katalog.we-online.de/en/em/625_0xx_221_21">http://katalog.we-online.de/en/em/625_0xx_221_21</a><p> / Created 2014-06-05, Karrer Zheng<br> / 2014 (C) Würth Elektronik
footprint 62504422121
pins: 1, 2, 3, 4, 5, 6, 7, 8, 9, 10, 11, 12, 13, 14, 15, 16, 17, 18, 19, 20, 21, 22, 23, 24, 25, 26, 27, 28, 29, 30, 31, 32, 33, 34, 35, 36, 37, 38, 39, 40, 41, 42, 43, 44

## 62505021621
designator J?, comment <b> WR-BHD 2.00mm Male Box Header, 50 Pins</b>=>Code : Con_WTB_BHD_2.00_Male_THT_62505021621 / <br><a href="http://katalog.we-online.de/media/thumbs2/eican/thb_Con_WTB_BHD_2.00_Male_THT_6250xx21621_pf2.jpg" title="Enlarge picture"> / <img src="http://katalog.we-online.de/media/thumbs2/eican/thb_Con_WTB_BHD_2.00_Male_THT_6250xx21621_pf2.jpg"  width="320"></a><p> / Details see: <a href="http://katalog.we-online.de/en/em/625_0xx_216_21">http://katalog.we-online.de/en/em/625_0xx_216_21</a><p> / Created 2014-06-05, Karrer Zheng<br> / 2014 (C) Würth Elektronik
footprint 62505021621
pins: 1, 2, 3, 4, 5, 6, 7, 8, 9, 10, 11, 12, 13, 14, 15, 16, 17, 18, 19, 20, 21, 22, 23, 24, 25, 26, 27, 28, 29, 30, 31, 32, 33, 34, 35, 36, 37, 38, 39, 40, 41, 42, 43, 44, 45, 46, 47, 48, 49, 50

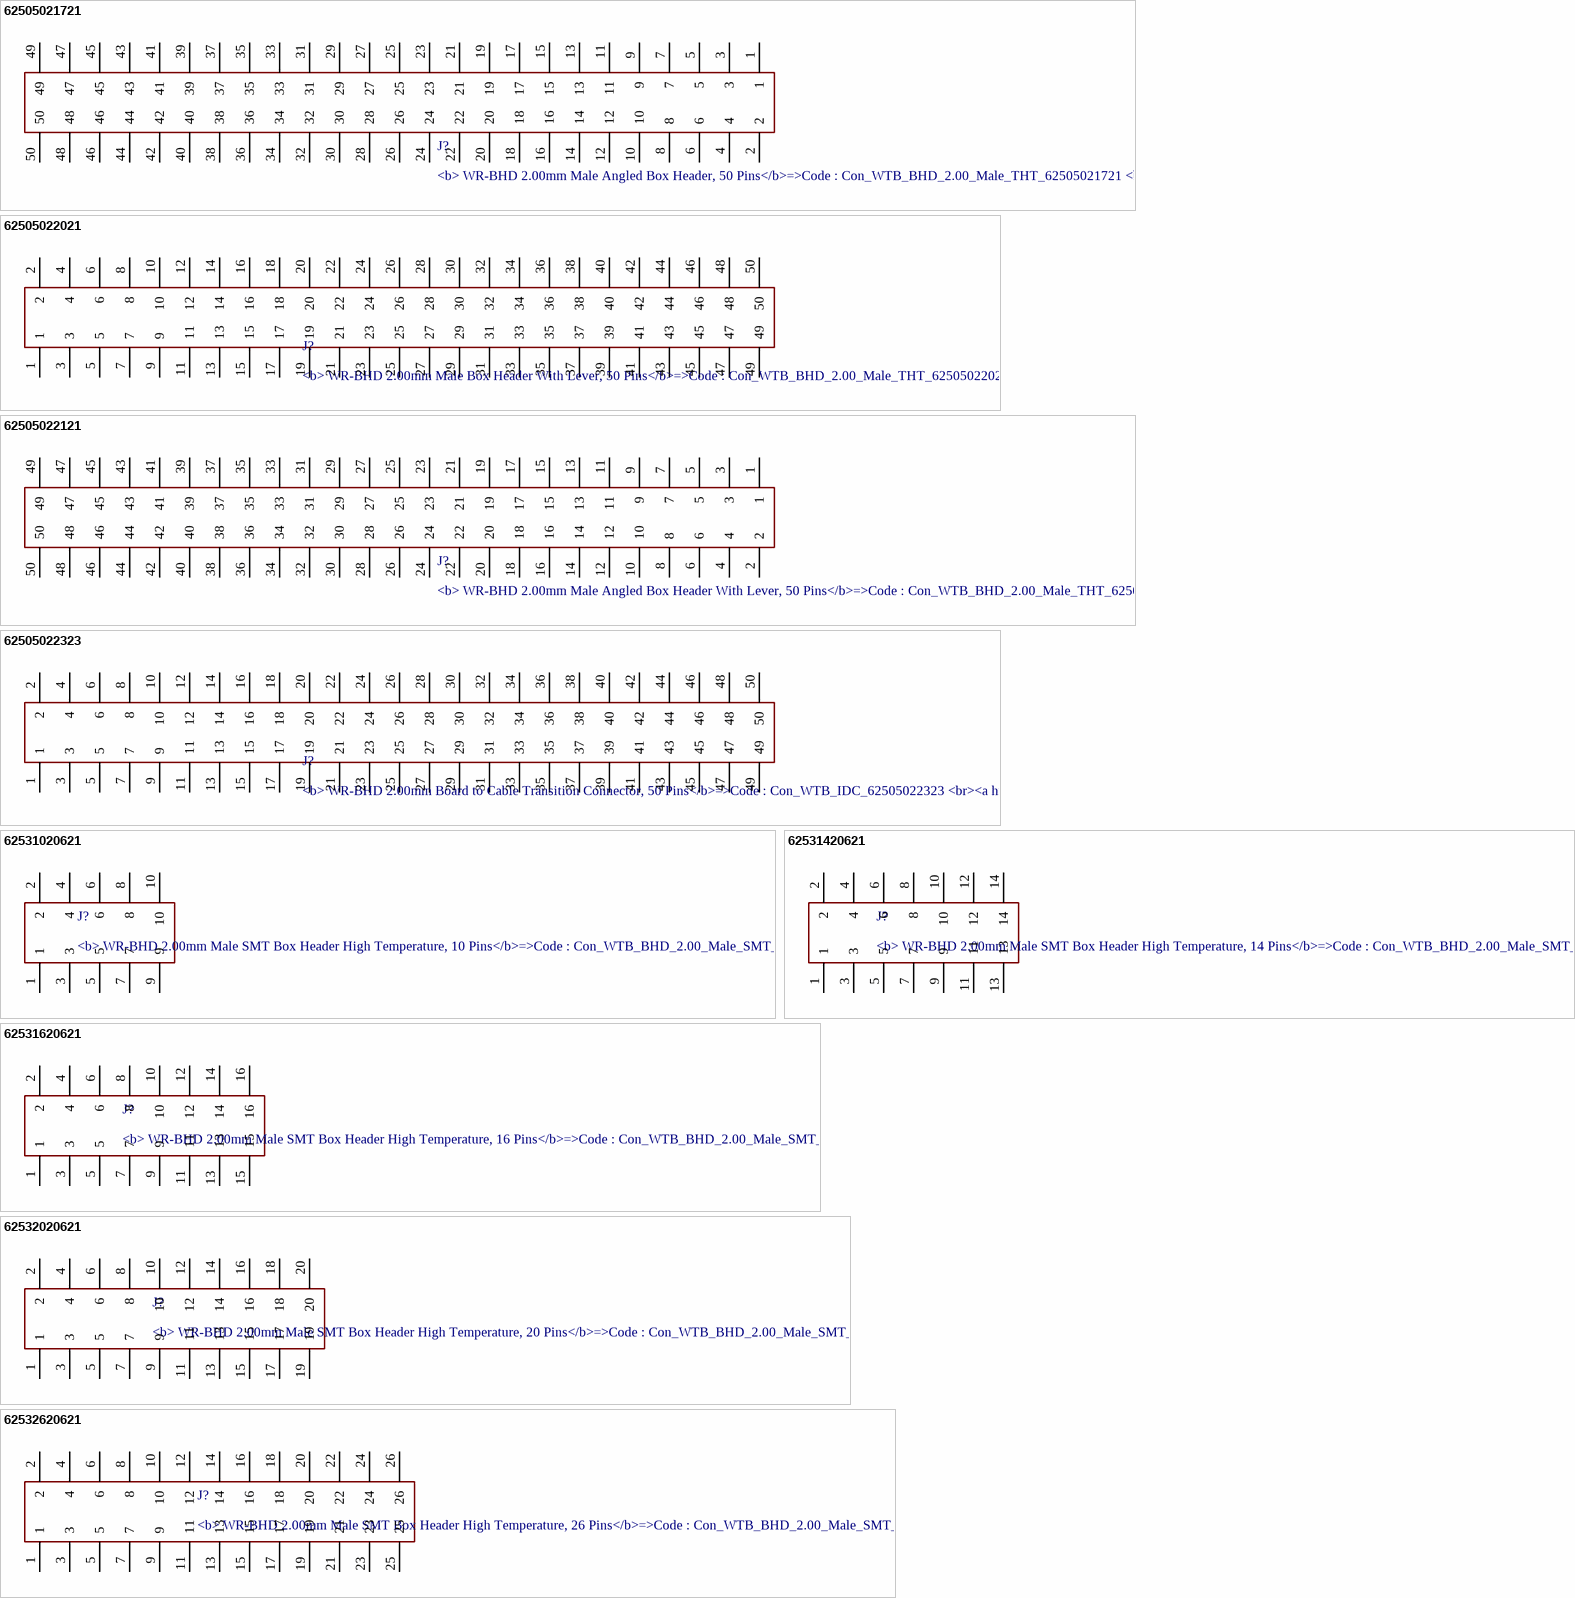
[diagram p21: symbols 62505021721 to 62532620621]